# Altium integrated library Altera MAX 7000B.IntLib: 128 symbols (part 7 of 9)
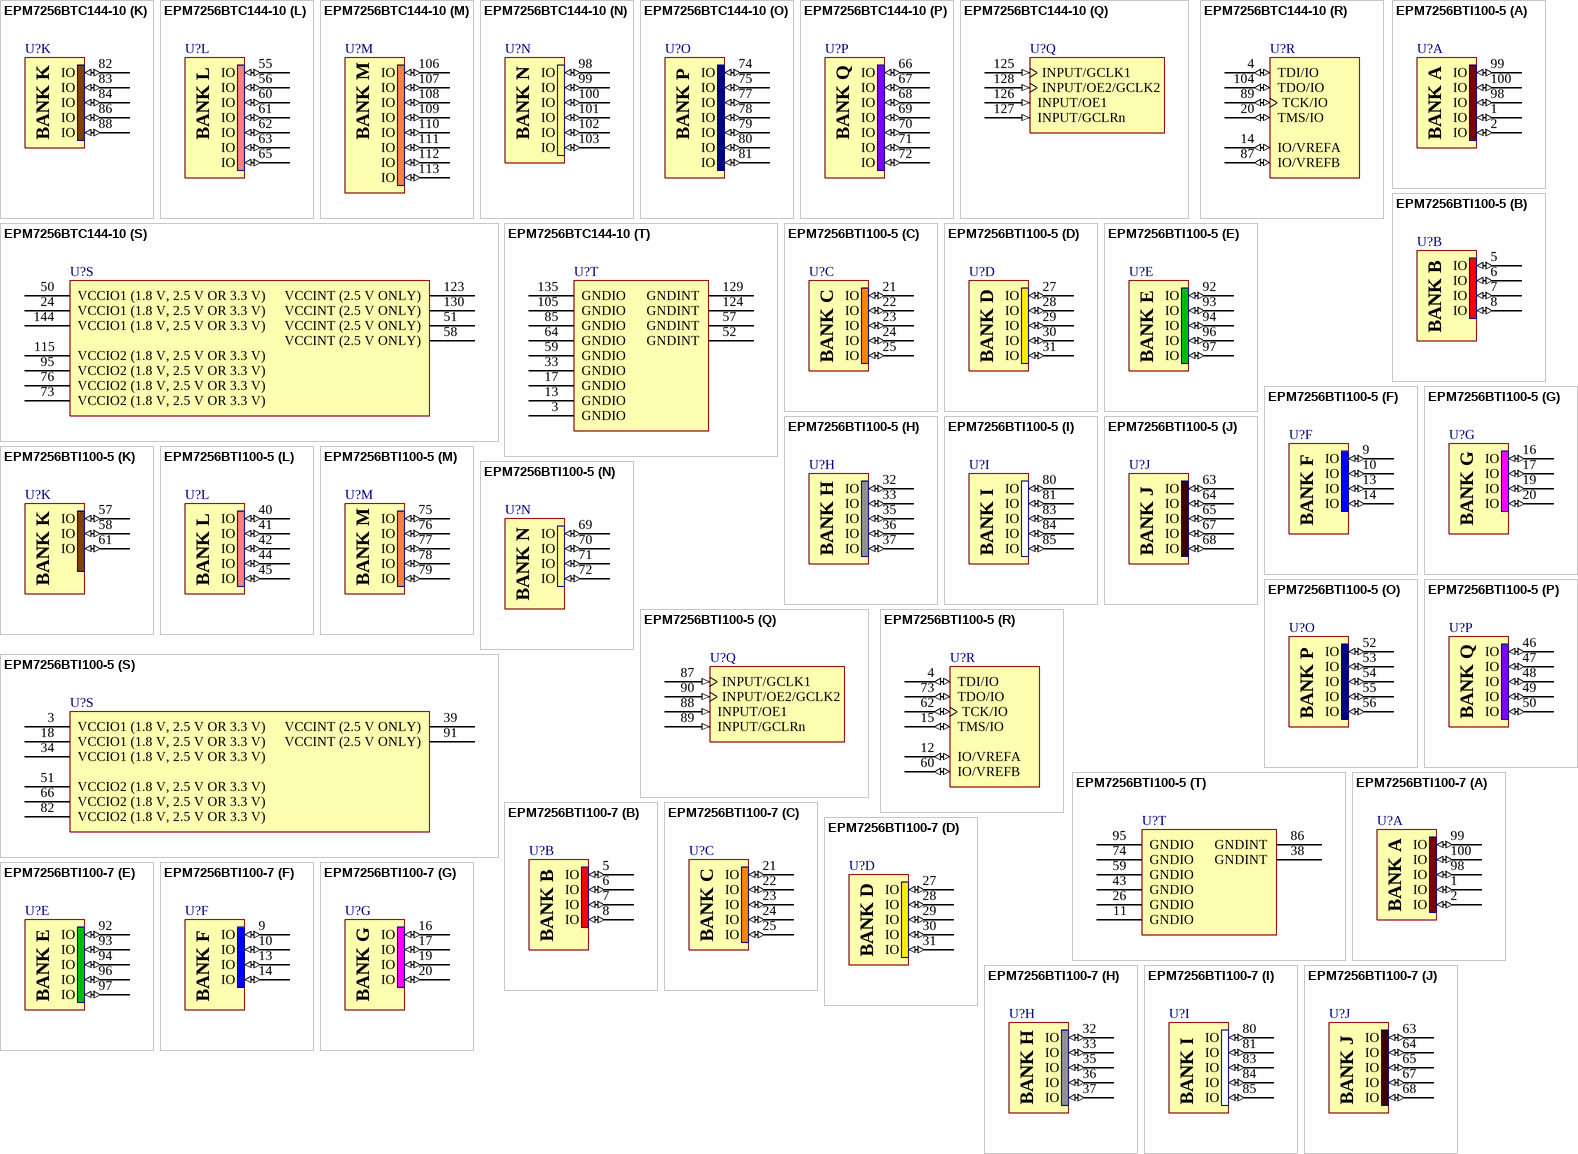
[diagram p53: symbols EPM7256BTC144-10 to EPM7256BTI100-7]

## EPM7256BTC144-10
designator U?
Max 7000B 2.5V CPLD, 256 Macrocells, 144-Pin TQFP, Speed Grade 10, Commercial Grade; Published: 23-Sep-2002; LatestRevisionDate: 13-Apr-2006; LatestRevisionNote: IPC-7351 Footprint Added.; DatasheetVersion: ver3.5, Sep-2005; PackageVersion: ver15.4, Dec-2008; PackageReference: TQFP144; Publisher: Altium Limited; PackageDescription: 144-Pin Plastic Thin Quad Flat Pack (TQFP144) - Wire Bond; Code_JEDEC: MS-026-BFB; ComponentLink1Description: Manufacturer Link; ComponentLink1URL: http://www.altera.com/products/devices/max7k/m7k-index.html; ComponentLink2Description: Datasheet; ComponentLink2URL: http://www.altera.com/literature/ds/m7000b.pdf; ComponentLink3Description: Packaging Specification; ComponentLink3URL: http://www.altera.com/literature/ds/dspkg.pdf
footprint TQFP144_N (Thin QFP, 144-Leads, Body 20x20mm, Pitch 0.5mm, IPC Medium Density)
footprint TQFP144_L (Thin QFP, 144-Leads, Body 20x20mm, Pitch 0.5mm, IPC High Density)
footprint TQFP144_M (Thin QFP, 144-Leads, Body 20x20mm, Pitch 0.5mm, IPC Low Density)
3D model EPM7256B-TQFP144 (144-Pin Plastic Thin Quad Flat Pack (TQFP144) - Wire Bond)
signal-integrity model 7kb (MAX 7000B)
part A pins: 1 IO (io), 2 IO (io), 139 IO (io), 140 IO (io), 141 IO (io), 142 IO (io), 143 IO (io)
part B pins: 5 IO (io), 6 IO (io), 7 IO (io), 8 IO (io), 9 IO (io), 10 IO (io)
part C pins: 28 IO (io), 29 IO (io), 30 IO (io), 31 IO (io), 32 IO (io), 34 IO (io), 35 IO (io), 36 IO (io)
part D pins: 37 IO (io), 38 IO (io), 39 IO (io), 40 IO (io), 41 IO (io), 42 IO (io), 43 IO (io), 44 IO (io)
part E pins: 131 IO (io), 132 IO (io), 133 IO (io), 134 IO (io), 136 IO (io), 137 IO (io), 138 IO (io)
part F pins: 11 IO (io), 12 IO (io), 15 IO (io), 16 IO (io), 18 IO (io), 19 IO (io)
part G pins: 21 IO (io), 22 IO (io), 23 IO (io), 25 IO (io), 26 IO (io), 27 IO (io)
part H pins: 45 IO (io), 46 IO (io), 47 IO (io), 48 IO (io), 49 IO (io), 53 IO (io), 54 IO (io)
part I pins: 114 IO (io), 116 IO (io), 117 IO (io), 118 IO (io), 119 IO (io), 120 IO (io), 121 IO (io), 122 IO (io)
part J pins: 90 IO (io), 91 IO (io), 92 IO (io), 93 IO (io), 94 IO (io), 96 IO (io), 97 IO (io)
part K pins: 82 IO (io), 83 IO (io), 84 IO (io), 86 IO (io), 88 IO (io)
part L pins: 55 IO (io), 56 IO (io), 60 IO (io), 61 IO (io), 62 IO (io), 63 IO (io), 65 IO (io)
part M pins: 106 IO (io), 107 IO (io), 108 IO (io), 109 IO (io), 110 IO (io), 111 IO (io), 112 IO (io), 113 IO (io)
part N pins: 98 IO (io), 99 IO (io), 100 IO (io), 101 IO (io), 102 IO (io), 103 IO (io)
part O pins: 74 IO (io), 75 IO (io), 77 IO (io), 78 IO (io), 79 IO (io), 80 IO (io), 81 IO (io)
part P pins: 66 IO (io), 67 IO (io), 68 IO (io), 69 IO (io), 70 IO (io), 71 IO (io), 72 IO (io)
part Q pins: 125 INPUT/GCLK1 (in), 126 INPUT/OE1 (in), 127 INPUT/GCLRn (in), 128 INPUT/OE2/GCLK2 (in)
part R pins: 4 TDI/IO (io), 14 IO/VREFA (io), 20 TMS/IO (io), 87 IO/VREFB (io), 89 TCK/IO (io), 104 TDO/IO (io)
part S pins: 24 VCCIO1 (1.8 V, 2.5 V OR 3.3 V) (power), 50 VCCIO1 (1.8 V, 2.5 V OR 3.3 V) (power), 51 VCCINT (2.5 V ONLY) (power), 58 VCCINT (2.5 V ONLY) (power), 73 VCCIO2 (1.8 V, 2.5 V OR 3.3 V) (power), 76 VCCIO2 (1.8 V, 2.5 V OR 3.3 V) (power), 95 VCCIO2 (1.8 V, 2.5 V OR 3.3 V) (power), 115 VCCIO2 (1.8 V, 2.5 V OR 3.3 V) (power), 123 VCCINT (2.5 V ONLY) (power), 130 VCCINT (2.5 V ONLY) (power), 144 VCCIO1 (1.8 V, 2.5 V OR 3.3 V) (power)
part T pins: 3 GNDIO (power), 13 GNDIO (power), 17 GNDIO (power), 33 GNDIO (power), 52 GNDINT (power), 57 GNDINT (power), 59 GNDIO (power), 64 GNDIO (power), 85 GNDIO (power), 105 GNDIO (power), 124 GNDINT (power), 129 GNDINT (power), 135 GNDIO (power)
part A text: BANK A
part B text: BANK B
part C text: BANK C
part D text: BANK D
part E text: BANK E
part F text: BANK F
part G text: BANK G
part H text: BANK H
part I text: BANK I
part J text: BANK J
part K text: BANK K
part L text: BANK L
part M text: BANK M
part N text: BANK N
part O text: BANK P
part P text: BANK Q

## EPM7256BTI100-5
designator U?
Max 7000B 2.5V CPLD, 256 Macrocells, 100-Pin TQFP, Speed Grade 5, Industrial Grade; Published: 17-Sep-2003; LatestRevisionDate: 13-Apr-2006; LatestRevisionNote: IPC-7351 Footprint Added.; DatasheetVersion: ver3.5, Sep-2005; PackageVersion: ver15.1, May-2008; PackageReference: TQFP100; Publisher: Altium Limited; PackageDescription: 100-Pin Plastic Thin Quad Flat Pack (TQFP100) - Wire Bond; Code_JEDEC: MS-026-AED; ComponentLink1Description: Manufacturer Link; ComponentLink1URL: http://www.altera.com/products/devices/max7k/m7k-index.html; ComponentLink2Description: Datasheet; ComponentLink2URL: http://www.altera.com/literature/ds/m7000b.pdf; ComponentLink3Description: Packaging Specification; ComponentLink3URL: http://www.altera.com/literature/ds/dspkg.pdf
footprint TQFP100_N (Thin QFP, 100-Leads, Body 14x14mm, Pitch 0.5mm, IPC Medium Density)
footprint TQFP100_L (Thin QFP, 100-Leads, Body 14x14mm, Pitch 0.5mm, IPC High Density)
footprint TQFP100_M (Thin QFP, 100-Leads, Body 14x14mm, Pitch 0.5mm, IPC Low Density)
3D model EPM7256B-TQFP100 (100-Pin Plastic Thin Quad Flat Pack (TQFP100) - Wire Bond)
signal-integrity model 7kb (MAX 7000B)
part A pins: 1 IO (io), 2 IO (io), 98 IO (io), 99 IO (io), 100 IO (io)
part B pins: 5 IO (io), 6 IO (io), 7 IO (io), 8 IO (io)
part C pins: 21 IO (io), 22 IO (io), 23 IO (io), 24 IO (io), 25 IO (io)
part D pins: 27 IO (io), 28 IO (io), 29 IO (io), 30 IO (io), 31 IO (io)
part E pins: 92 IO (io), 93 IO (io), 94 IO (io), 96 IO (io), 97 IO (io)
part F pins: 9 IO (io), 10 IO (io), 13 IO (io), 14 IO (io)
part G pins: 16 IO (io), 17 IO (io), 19 IO (io), 20 IO (io)
part H pins: 32 IO (io), 33 IO (io), 35 IO (io), 36 IO (io), 37 IO (io)
part I pins: 80 IO (io), 81 IO (io), 83 IO (io), 84 IO (io), 85 IO (io)
part J pins: 63 IO (io), 64 IO (io), 65 IO (io), 67 IO (io), 68 IO (io)
part K pins: 57 IO (io), 58 IO (io), 61 IO (io)
part L pins: 40 IO (io), 41 IO (io), 42 IO (io), 44 IO (io), 45 IO (io)
part M pins: 75 IO (io), 76 IO (io), 77 IO (io), 78 IO (io), 79 IO (io)
part N pins: 69 IO (io), 70 IO (io), 71 IO (io), 72 IO (io)
part O pins: 52 IO (io), 53 IO (io), 54 IO (io), 55 IO (io), 56 IO (io)
part P pins: 46 IO (io), 47 IO (io), 48 IO (io), 49 IO (io), 50 IO (io)
part Q pins: 87 INPUT/GCLK1 (in), 88 INPUT/OE1 (in), 89 INPUT/GCLRn (in), 90 INPUT/OE2/GCLK2 (in)
part R pins: 4 TDI/IO (io), 12 IO/VREFA (io), 15 TMS/IO (io), 60 IO/VREFB (io), 62 TCK/IO (io), 73 TDO/IO (io)
part S pins: 3 VCCIO1 (1.8 V, 2.5 V OR 3.3 V) (power), 18 VCCIO1 (1.8 V, 2.5 V OR 3.3 V) (power), 34 VCCIO1 (1.8 V, 2.5 V OR 3.3 V) (power), 39 VCCINT (2.5 V ONLY) (power), 51 VCCIO2 (1.8 V, 2.5 V OR 3.3 V) (power), 66 VCCIO2 (1.8 V, 2.5 V OR 3.3 V) (power), 82 VCCIO2 (1.8 V, 2.5 V OR 3.3 V) (power), 91 VCCINT (2.5 V ONLY) (power)
part T pins: 11 GNDIO (power), 26 GNDIO (power), 38 GNDINT (power), 43 GNDIO (power), 59 GNDIO (power), 74 GNDIO (power), 86 GNDINT (power), 95 GNDIO (power)
part A text: BANK A
part B text: BANK B
part C text: BANK C
part D text: BANK D
part E text: BANK E
part F text: BANK F
part G text: BANK G
part H text: BANK H
part I text: BANK I
part J text: BANK J
part K text: BANK K
part L text: BANK L
part M text: BANK M
part N text: BANK N
part O text: BANK P
part P text: BANK Q

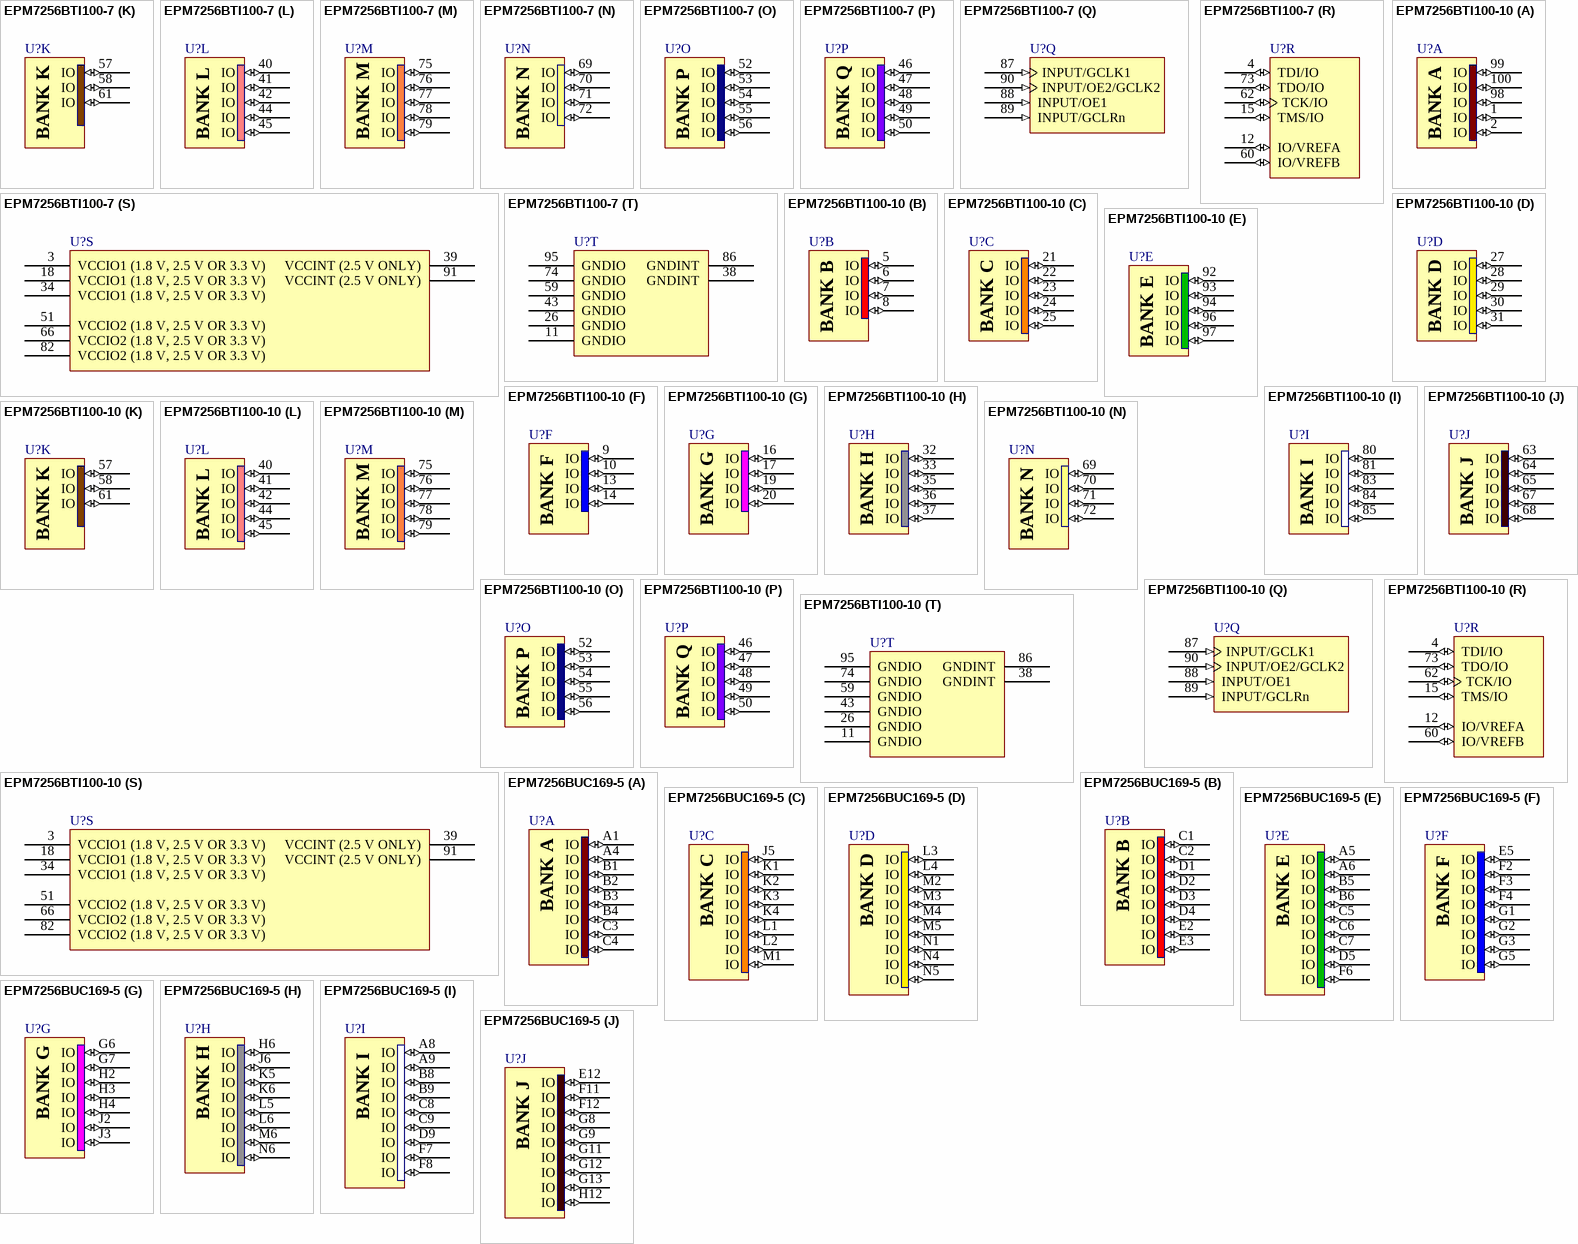
[diagram p34: symbols EPM7256BTI100-7 to EPM7256BUC169-5]

## EPM7256BTI100-7
designator U?
Max 7000B 2.5V CPLD, 256 Macrocells, 100-Pin TQFP, Speed Grade 7, Industrial Grade; Published: 17-Sep-2003; LatestRevisionDate: 13-Apr-2006; LatestRevisionNote: IPC-7351 Footprint Added.; DatasheetVersion: ver3.5, Sep-2005; PackageVersion: ver15.1, May-2008; PackageReference: TQFP100; Publisher: Altium Limited; PackageDescription: 100-Pin Plastic Thin Quad Flat Pack (TQFP100) - Wire Bond; Code_JEDEC: MS-026-AED; ComponentLink1Description: Manufacturer Link; ComponentLink1URL: http://www.altera.com/products/devices/max7k/m7k-index.html; ComponentLink2Description: Datasheet; ComponentLink2URL: http://www.altera.com/literature/ds/m7000b.pdf; ComponentLink3Description: Packaging Specification; ComponentLink3URL: http://www.altera.com/literature/ds/dspkg.pdf
footprint TQFP100_N (Thin QFP, 100-Leads, Body 14x14mm, Pitch 0.5mm, IPC Medium Density)
footprint TQFP100_L (Thin QFP, 100-Leads, Body 14x14mm, Pitch 0.5mm, IPC High Density)
footprint TQFP100_M (Thin QFP, 100-Leads, Body 14x14mm, Pitch 0.5mm, IPC Low Density)
3D model EPM7256B-TQFP100 (100-Pin Plastic Thin Quad Flat Pack (TQFP100) - Wire Bond)
signal-integrity model 7kb (MAX 7000B)
part A pins: 1 IO (io), 2 IO (io), 98 IO (io), 99 IO (io), 100 IO (io)
part B pins: 5 IO (io), 6 IO (io), 7 IO (io), 8 IO (io)
part C pins: 21 IO (io), 22 IO (io), 23 IO (io), 24 IO (io), 25 IO (io)
part D pins: 27 IO (io), 28 IO (io), 29 IO (io), 30 IO (io), 31 IO (io)
part E pins: 92 IO (io), 93 IO (io), 94 IO (io), 96 IO (io), 97 IO (io)
part F pins: 9 IO (io), 10 IO (io), 13 IO (io), 14 IO (io)
part G pins: 16 IO (io), 17 IO (io), 19 IO (io), 20 IO (io)
part H pins: 32 IO (io), 33 IO (io), 35 IO (io), 36 IO (io), 37 IO (io)
part I pins: 80 IO (io), 81 IO (io), 83 IO (io), 84 IO (io), 85 IO (io)
part J pins: 63 IO (io), 64 IO (io), 65 IO (io), 67 IO (io), 68 IO (io)
part K pins: 57 IO (io), 58 IO (io), 61 IO (io)
part L pins: 40 IO (io), 41 IO (io), 42 IO (io), 44 IO (io), 45 IO (io)
part M pins: 75 IO (io), 76 IO (io), 77 IO (io), 78 IO (io), 79 IO (io)
part N pins: 69 IO (io), 70 IO (io), 71 IO (io), 72 IO (io)
part O pins: 52 IO (io), 53 IO (io), 54 IO (io), 55 IO (io), 56 IO (io)
part P pins: 46 IO (io), 47 IO (io), 48 IO (io), 49 IO (io), 50 IO (io)
part Q pins: 87 INPUT/GCLK1 (in), 88 INPUT/OE1 (in), 89 INPUT/GCLRn (in), 90 INPUT/OE2/GCLK2 (in)
part R pins: 4 TDI/IO (io), 12 IO/VREFA (io), 15 TMS/IO (io), 60 IO/VREFB (io), 62 TCK/IO (io), 73 TDO/IO (io)
part S pins: 3 VCCIO1 (1.8 V, 2.5 V OR 3.3 V) (power), 18 VCCIO1 (1.8 V, 2.5 V OR 3.3 V) (power), 34 VCCIO1 (1.8 V, 2.5 V OR 3.3 V) (power), 39 VCCINT (2.5 V ONLY) (power), 51 VCCIO2 (1.8 V, 2.5 V OR 3.3 V) (power), 66 VCCIO2 (1.8 V, 2.5 V OR 3.3 V) (power), 82 VCCIO2 (1.8 V, 2.5 V OR 3.3 V) (power), 91 VCCINT (2.5 V ONLY) (power)
part T pins: 11 GNDIO (power), 26 GNDIO (power), 38 GNDINT (power), 43 GNDIO (power), 59 GNDIO (power), 74 GNDIO (power), 86 GNDINT (power), 95 GNDIO (power)
part A text: BANK A
part B text: BANK B
part C text: BANK C
part D text: BANK D
part E text: BANK E
part F text: BANK F
part G text: BANK G
part H text: BANK H
part I text: BANK I
part J text: BANK J
part K text: BANK K
part L text: BANK L
part M text: BANK M
part N text: BANK N
part O text: BANK P
part P text: BANK Q

## EPM7256BTI100-10
designator U?
Max 7000B 2.5V CPLD, 256 Macrocells, 100-Pin TQFP, Speed Grade 10, Industrial Grade; Published: 17-Sep-2003; LatestRevisionDate: 13-Apr-2006; LatestRevisionNote: IPC-7351 Footprint Added.; DatasheetVersion: ver3.5, Sep-2005; PackageVersion: ver15.1, May-2008; PackageReference: TQFP100; Publisher: Altium Limited; PackageDescription: 100-Pin Plastic Thin Quad Flat Pack (TQFP100) - Wire Bond; Code_JEDEC: MS-026-AED; ComponentLink1Description: Manufacturer Link; ComponentLink1URL: http://www.altera.com/products/devices/max7k/m7k-index.html; ComponentLink2Description: Datasheet; ComponentLink2URL: http://www.altera.com/literature/ds/m7000b.pdf; ComponentLink3Description: Packaging Specification; ComponentLink3URL: http://www.altera.com/literature/ds/dspkg.pdf
footprint TQFP100_N (Thin QFP, 100-Leads, Body 14x14mm, Pitch 0.5mm, IPC Medium Density)
footprint TQFP100_L (Thin QFP, 100-Leads, Body 14x14mm, Pitch 0.5mm, IPC High Density)
footprint TQFP100_M (Thin QFP, 100-Leads, Body 14x14mm, Pitch 0.5mm, IPC Low Density)
3D model EPM7256B-TQFP100 (100-Pin Plastic Thin Quad Flat Pack (TQFP100) - Wire Bond)
signal-integrity model 7kb (MAX 7000B)
part A pins: 1 IO (io), 2 IO (io), 98 IO (io), 99 IO (io), 100 IO (io)
part B pins: 5 IO (io), 6 IO (io), 7 IO (io), 8 IO (io)
part C pins: 21 IO (io), 22 IO (io), 23 IO (io), 24 IO (io), 25 IO (io)
part D pins: 27 IO (io), 28 IO (io), 29 IO (io), 30 IO (io), 31 IO (io)
part E pins: 92 IO (io), 93 IO (io), 94 IO (io), 96 IO (io), 97 IO (io)
part F pins: 9 IO (io), 10 IO (io), 13 IO (io), 14 IO (io)
part G pins: 16 IO (io), 17 IO (io), 19 IO (io), 20 IO (io)
part H pins: 32 IO (io), 33 IO (io), 35 IO (io), 36 IO (io), 37 IO (io)
part I pins: 80 IO (io), 81 IO (io), 83 IO (io), 84 IO (io), 85 IO (io)
part J pins: 63 IO (io), 64 IO (io), 65 IO (io), 67 IO (io), 68 IO (io)
part K pins: 57 IO (io), 58 IO (io), 61 IO (io)
part L pins: 40 IO (io), 41 IO (io), 42 IO (io), 44 IO (io), 45 IO (io)
part M pins: 75 IO (io), 76 IO (io), 77 IO (io), 78 IO (io), 79 IO (io)
part N pins: 69 IO (io), 70 IO (io), 71 IO (io), 72 IO (io)
part O pins: 52 IO (io), 53 IO (io), 54 IO (io), 55 IO (io), 56 IO (io)
part P pins: 46 IO (io), 47 IO (io), 48 IO (io), 49 IO (io), 50 IO (io)
part Q pins: 87 INPUT/GCLK1 (in), 88 INPUT/OE1 (in), 89 INPUT/GCLRn (in), 90 INPUT/OE2/GCLK2 (in)
part R pins: 4 TDI/IO (io), 12 IO/VREFA (io), 15 TMS/IO (io), 60 IO/VREFB (io), 62 TCK/IO (io), 73 TDO/IO (io)
part S pins: 3 VCCIO1 (1.8 V, 2.5 V OR 3.3 V) (power), 18 VCCIO1 (1.8 V, 2.5 V OR 3.3 V) (power), 34 VCCIO1 (1.8 V, 2.5 V OR 3.3 V) (power), 39 VCCINT (2.5 V ONLY) (power), 51 VCCIO2 (1.8 V, 2.5 V OR 3.3 V) (power), 66 VCCIO2 (1.8 V, 2.5 V OR 3.3 V) (power), 82 VCCIO2 (1.8 V, 2.5 V OR 3.3 V) (power), 91 VCCINT (2.5 V ONLY) (power)
part T pins: 11 GNDIO (power), 26 GNDIO (power), 38 GNDINT (power), 43 GNDIO (power), 59 GNDIO (power), 74 GNDIO (power), 86 GNDINT (power), 95 GNDIO (power)
part A text: BANK A
part B text: BANK B
part C text: BANK C
part D text: BANK D
part E text: BANK E
part F text: BANK F
part G text: BANK G
part H text: BANK H
part I text: BANK I
part J text: BANK J
part K text: BANK K
part L text: BANK L
part M text: BANK M
part N text: BANK N
part O text: BANK P
part P text: BANK Q

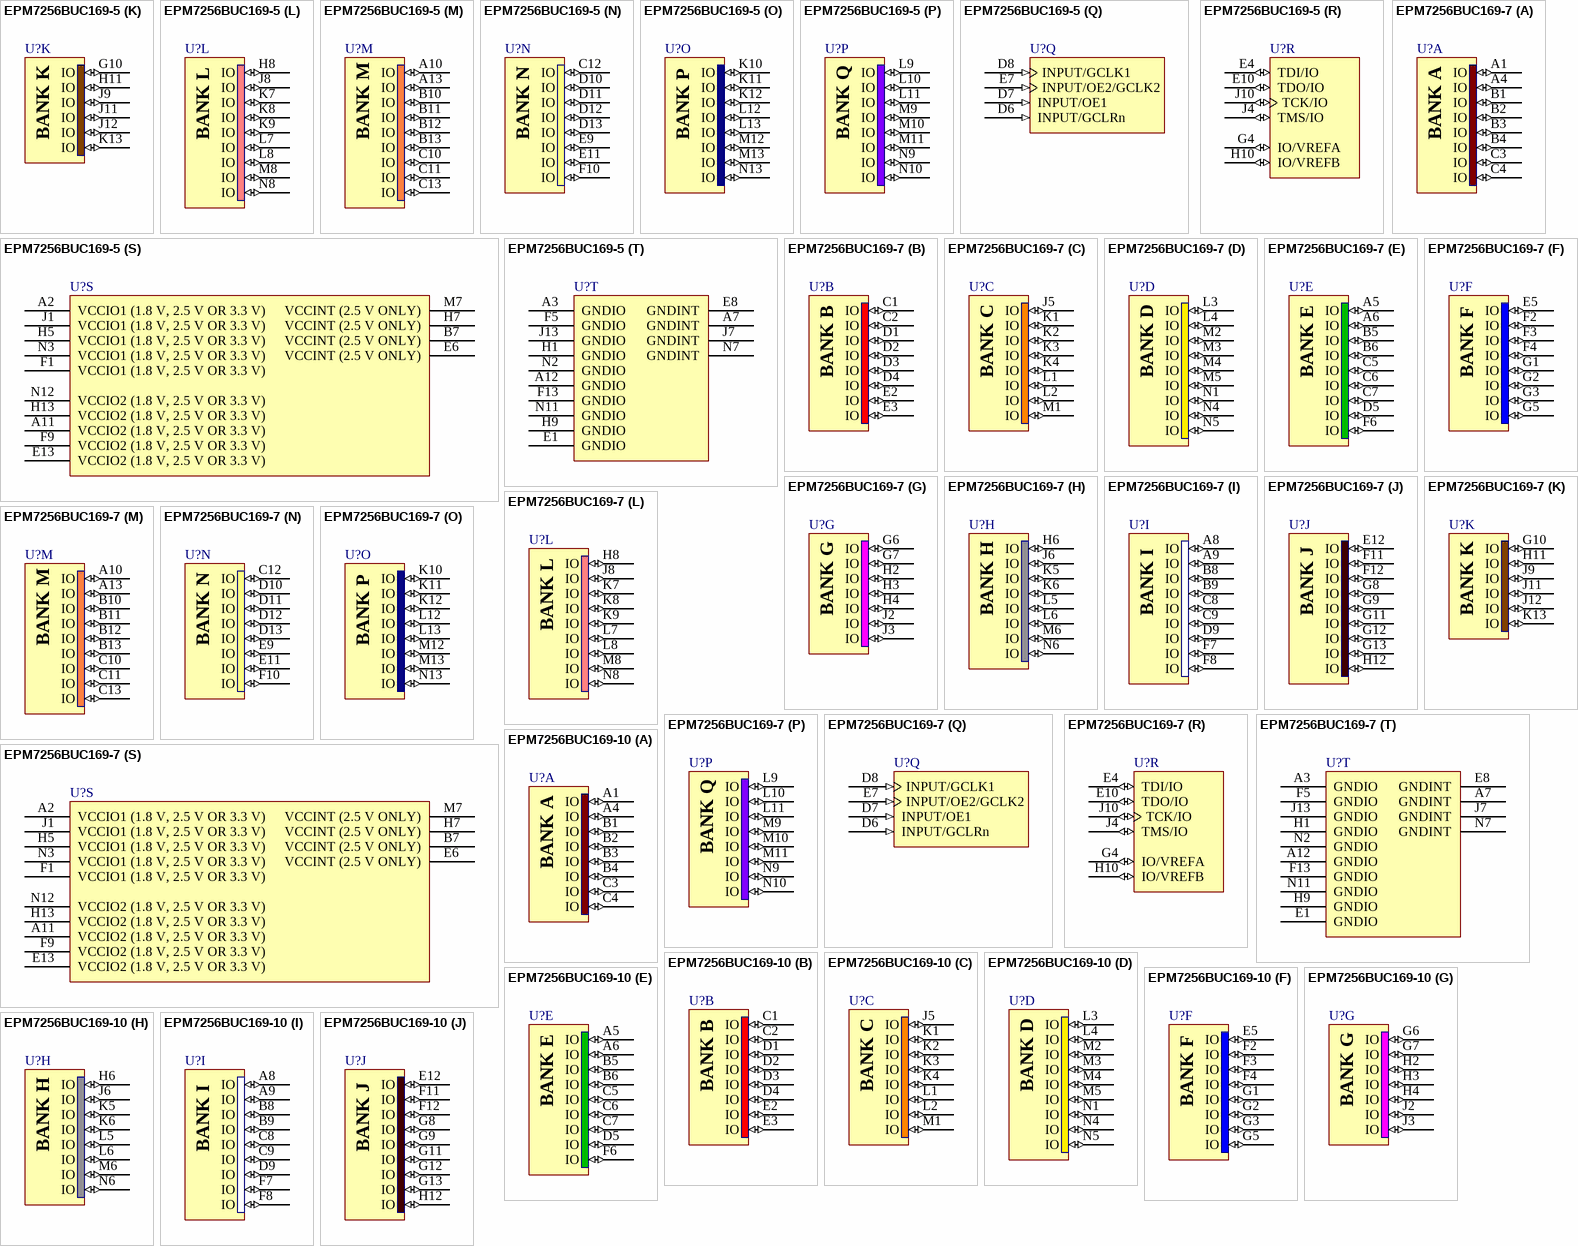
[diagram p35: symbols EPM7256BUC169-5 to EPM7256BUC169-10]

## EPM7256BUC169-5
designator U?
Max 7000B 2.5V CPLD, 256 Macrocells, 169-Pin UFBGA, Speed Grade 5, Commercial Grade; Published: 17-Sep-2003; LatestRevisionDate: 13-Apr-2006; LatestRevisionNote: IPC-7351 Footprint Added.; DatasheetVersion: ver3.5, Sep-2005; PackageVersion: ver15.4, Dec-2008; PackageReference: UBGA169; Publisher: Altium Limited; PackageDescription: 169-Ball Ultra FineLine Ball Grid Array (UBGA169) - Wire Bond; Code_JEDEC: MO-216-BAF-1; ComponentLink1Description: Manufacturer Link; ComponentLink1URL: http://www.altera.com/products/devices/max7k/m7k-index.html; ComponentLink2Description: Datasheet; ComponentLink2URL: http://www.altera.com/literature/ds/m7000b.pdf; ComponentLink3Description: Packaging Specification; ComponentLink3URL: http://www.altera.com/literature/ds/dspkg.pdf
footprint UBGA169 (BGA, 169-Leads, Body 11x11mm, Pitch 0.8mm)
3D model EPM7256B-UBGA169 (169-Ball Ultra FineLine Ball Grid Array (UBGA169) - Wire Bond)
signal-integrity model 7kb (MAX 7000B)
part A pins: A1 IO (io), A4 IO (io), B1 IO (io), B2 IO (io), B3 IO (io), B4 IO (io), C3 IO (io), C4 IO (io)
part B pins: C1 IO (io), C2 IO (io), D1 IO (io), D2 IO (io), D3 IO (io), D4 IO (io), E2 IO (io), E3 IO (io)
part C pins: J5 IO (io), K1 IO (io), K2 IO (io), K3 IO (io), K4 IO (io), L1 IO (io), L2 IO (io), M1 IO (io)
part D pins: L3 IO (io), L4 IO (io), M2 IO (io), M3 IO (io), M4 IO (io), M5 IO (io), N1 IO (io), N4 IO (io), N5 IO (io)
part E pins: A5 IO (io), A6 IO (io), B5 IO (io), B6 IO (io), C5 IO (io), C6 IO (io), C7 IO (io), D5 IO (io), F6 IO (io)
part F pins: E5 IO (io), F2 IO (io), F3 IO (io), F4 IO (io), G1 IO (io), G2 IO (io), G3 IO (io), G5 IO (io)
part G pins: G6 IO (io), G7 IO (io), H2 IO (io), H3 IO (io), H4 IO (io), J2 IO (io), J3 IO (io)
part H pins: H6 IO (io), J6 IO (io), K5 IO (io), K6 IO (io), L5 IO (io), L6 IO (io), M6 IO (io), N6 IO (io)
part I pins: A8 IO (io), A9 IO (io), B8 IO (io), B9 IO (io), C8 IO (io), C9 IO (io), D9 IO (io), F7 IO (io), F8 IO (io)
part J pins: E12 IO (io), F11 IO (io), F12 IO (io), G8 IO (io), G9 IO (io), G11 IO (io), G12 IO (io), G13 IO (io), H12 IO (io)
part K pins: G10 IO (io), H11 IO (io), J9 IO (io), J11 IO (io), J12 IO (io), K13 IO (io)
part L pins: H8 IO (io), J8 IO (io), K7 IO (io), K8 IO (io), K9 IO (io), L7 IO (io), L8 IO (io), M8 IO (io), N8 IO (io)
part M pins: A10 IO (io), A13 IO (io), B10 IO (io), B11 IO (io), B12 IO (io), B13 IO (io), C10 IO (io), C11 IO (io), C13 IO (io)
part N pins: C12 IO (io), D10 IO (io), D11 IO (io), D12 IO (io), D13 IO (io), E9 IO (io), E11 IO (io), F10 IO (io)
part O pins: K10 IO (io), K11 IO (io), K12 IO (io), L12 IO (io), L13 IO (io), M12 IO (io), M13 IO (io), N13 IO (io)
part P pins: L9 IO (io), L10 IO (io), L11 IO (io), M9 IO (io), M10 IO (io), M11 IO (io), N9 IO (io), N10 IO (io)
part Q pins: D6 INPUT/GCLRn (in), D7 INPUT/OE1 (in), D8 INPUT/GCLK1 (in), E7 INPUT/OE2/GCLK2 (in)
part R pins: E4 TDI/IO (io), E10 TDO/IO (io), G4 IO/VREFA (io), H10 IO/VREFB (io), J4 TMS/IO (io), J10 TCK/IO (io)
part S pins: A2 VCCIO1 (1.8 V, 2.5 V OR 3.3 V) (power), A11 VCCIO2 (1.8 V, 2.5 V OR 3.3 V) (power), B7 VCCINT (2.5 V ONLY) (power), E6 VCCINT (2.5 V ONLY) (power), E13 VCCIO2 (1.8 V, 2.5 V OR 3.3 V) (power), F1 VCCIO1 (1.8 V, 2.5 V OR 3.3 V) (power), F9 VCCIO2 (1.8 V, 2.5 V OR 3.3 V) (power), H5 VCCIO1 (1.8 V, 2.5 V OR 3.3 V) (power), H7 VCCINT (2.5 V ONLY) (power), H13 VCCIO2 (1.8 V, 2.5 V OR 3.3 V) (power), J1 VCCIO1 (1.8 V, 2.5 V OR 3.3 V) (power), M7 VCCINT (2.5 V ONLY) (power), N3 VCCIO1 (1.8 V, 2.5 V OR 3.3 V) (power), N12 VCCIO2 (1.8 V, 2.5 V OR 3.3 V) (power)
part T pins: A3 GNDIO (power), A7 GNDINT (power), A12 GNDIO (power), E1 GNDIO (power), E8 GNDINT (power), F5 GNDIO (power), F13 GNDIO (power), H1 GNDIO (power), H9 GNDIO (power), J7 GNDINT (power), J13 GNDIO (power), N2 GNDIO (power), N7 GNDINT (power), N11 GNDIO (power)
part A text: BANK A
part B text: BANK B
part C text: BANK C
part D text: BANK D
part E text: BANK E
part F text: BANK F
part G text: BANK G
part H text: BANK H
part I text: BANK I
part J text: BANK J
part K text: BANK K
part L text: BANK L
part M text: BANK M
part N text: BANK N
part O text: BANK P
part P text: BANK Q

## EPM7256BUC169-7
designator U?
Max 7000B 2.5V CPLD, 256 Macrocells, 169-Pin UFBGA, Speed Grade 7, Commercial Grade; Published: 17-Sep-2003; LatestRevisionDate: 13-Apr-2006; LatestRevisionNote: IPC-7351 Footprint Added.; DatasheetVersion: ver3.5, Sep-2005; PackageVersion: ver15.4, Dec-2008; PackageReference: UBGA169; Publisher: Altium Limited; PackageDescription: 169-Ball Ultra FineLine Ball Grid Array (UBGA169) - Wire Bond; Code_JEDEC: MO-216-BAF-1; ComponentLink1Description: Manufacturer Link; ComponentLink1URL: http://www.altera.com/products/devices/max7k/m7k-index.html; ComponentLink2Description: Datasheet; ComponentLink2URL: http://www.altera.com/literature/ds/m7000b.pdf; ComponentLink3Description: Packaging Specification; ComponentLink3URL: http://www.altera.com/literature/ds/dspkg.pdf
footprint UBGA169 (BGA, 169-Leads, Body 11x11mm, Pitch 0.8mm)
3D model EPM7256B-UBGA169 (169-Ball Ultra FineLine Ball Grid Array (UBGA169) - Wire Bond)
signal-integrity model 7kb (MAX 7000B)
part A pins: A1 IO (io), A4 IO (io), B1 IO (io), B2 IO (io), B3 IO (io), B4 IO (io), C3 IO (io), C4 IO (io)
part B pins: C1 IO (io), C2 IO (io), D1 IO (io), D2 IO (io), D3 IO (io), D4 IO (io), E2 IO (io), E3 IO (io)
part C pins: J5 IO (io), K1 IO (io), K2 IO (io), K3 IO (io), K4 IO (io), L1 IO (io), L2 IO (io), M1 IO (io)
part D pins: L3 IO (io), L4 IO (io), M2 IO (io), M3 IO (io), M4 IO (io), M5 IO (io), N1 IO (io), N4 IO (io), N5 IO (io)
part E pins: A5 IO (io), A6 IO (io), B5 IO (io), B6 IO (io), C5 IO (io), C6 IO (io), C7 IO (io), D5 IO (io), F6 IO (io)
part F pins: E5 IO (io), F2 IO (io), F3 IO (io), F4 IO (io), G1 IO (io), G2 IO (io), G3 IO (io), G5 IO (io)
part G pins: G6 IO (io), G7 IO (io), H2 IO (io), H3 IO (io), H4 IO (io), J2 IO (io), J3 IO (io)
part H pins: H6 IO (io), J6 IO (io), K5 IO (io), K6 IO (io), L5 IO (io), L6 IO (io), M6 IO (io), N6 IO (io)
part I pins: A8 IO (io), A9 IO (io), B8 IO (io), B9 IO (io), C8 IO (io), C9 IO (io), D9 IO (io), F7 IO (io), F8 IO (io)
part J pins: E12 IO (io), F11 IO (io), F12 IO (io), G8 IO (io), G9 IO (io), G11 IO (io), G12 IO (io), G13 IO (io), H12 IO (io)
part K pins: G10 IO (io), H11 IO (io), J9 IO (io), J11 IO (io), J12 IO (io), K13 IO (io)
part L pins: H8 IO (io), J8 IO (io), K7 IO (io), K8 IO (io), K9 IO (io), L7 IO (io), L8 IO (io), M8 IO (io), N8 IO (io)
part M pins: A10 IO (io), A13 IO (io), B10 IO (io), B11 IO (io), B12 IO (io), B13 IO (io), C10 IO (io), C11 IO (io), C13 IO (io)
part N pins: C12 IO (io), D10 IO (io), D11 IO (io), D12 IO (io), D13 IO (io), E9 IO (io), E11 IO (io), F10 IO (io)
part O pins: K10 IO (io), K11 IO (io), K12 IO (io), L12 IO (io), L13 IO (io), M12 IO (io), M13 IO (io), N13 IO (io)
part P pins: L9 IO (io), L10 IO (io), L11 IO (io), M9 IO (io), M10 IO (io), M11 IO (io), N9 IO (io), N10 IO (io)
part Q pins: D6 INPUT/GCLRn (in), D7 INPUT/OE1 (in), D8 INPUT/GCLK1 (in), E7 INPUT/OE2/GCLK2 (in)
part R pins: E4 TDI/IO (io), E10 TDO/IO (io), G4 IO/VREFA (io), H10 IO/VREFB (io), J4 TMS/IO (io), J10 TCK/IO (io)
part S pins: A2 VCCIO1 (1.8 V, 2.5 V OR 3.3 V) (power), A11 VCCIO2 (1.8 V, 2.5 V OR 3.3 V) (power), B7 VCCINT (2.5 V ONLY) (power), E6 VCCINT (2.5 V ONLY) (power), E13 VCCIO2 (1.8 V, 2.5 V OR 3.3 V) (power), F1 VCCIO1 (1.8 V, 2.5 V OR 3.3 V) (power), F9 VCCIO2 (1.8 V, 2.5 V OR 3.3 V) (power), H5 VCCIO1 (1.8 V, 2.5 V OR 3.3 V) (power), H7 VCCINT (2.5 V ONLY) (power), H13 VCCIO2 (1.8 V, 2.5 V OR 3.3 V) (power), J1 VCCIO1 (1.8 V, 2.5 V OR 3.3 V) (power), M7 VCCINT (2.5 V ONLY) (power), N3 VCCIO1 (1.8 V, 2.5 V OR 3.3 V) (power), N12 VCCIO2 (1.8 V, 2.5 V OR 3.3 V) (power)
part T pins: A3 GNDIO (power), A7 GNDINT (power), A12 GNDIO (power), E1 GNDIO (power), E8 GNDINT (power), F5 GNDIO (power), F13 GNDIO (power), H1 GNDIO (power), H9 GNDIO (power), J7 GNDINT (power), J13 GNDIO (power), N2 GNDIO (power), N7 GNDINT (power), N11 GNDIO (power)
part A text: BANK A
part B text: BANK B
part C text: BANK C
part D text: BANK D
part E text: BANK E
part F text: BANK F
part G text: BANK G
part H text: BANK H
part I text: BANK I
part J text: BANK J
part K text: BANK K
part L text: BANK L
part M text: BANK M
part N text: BANK N
part O text: BANK P
part P text: BANK Q

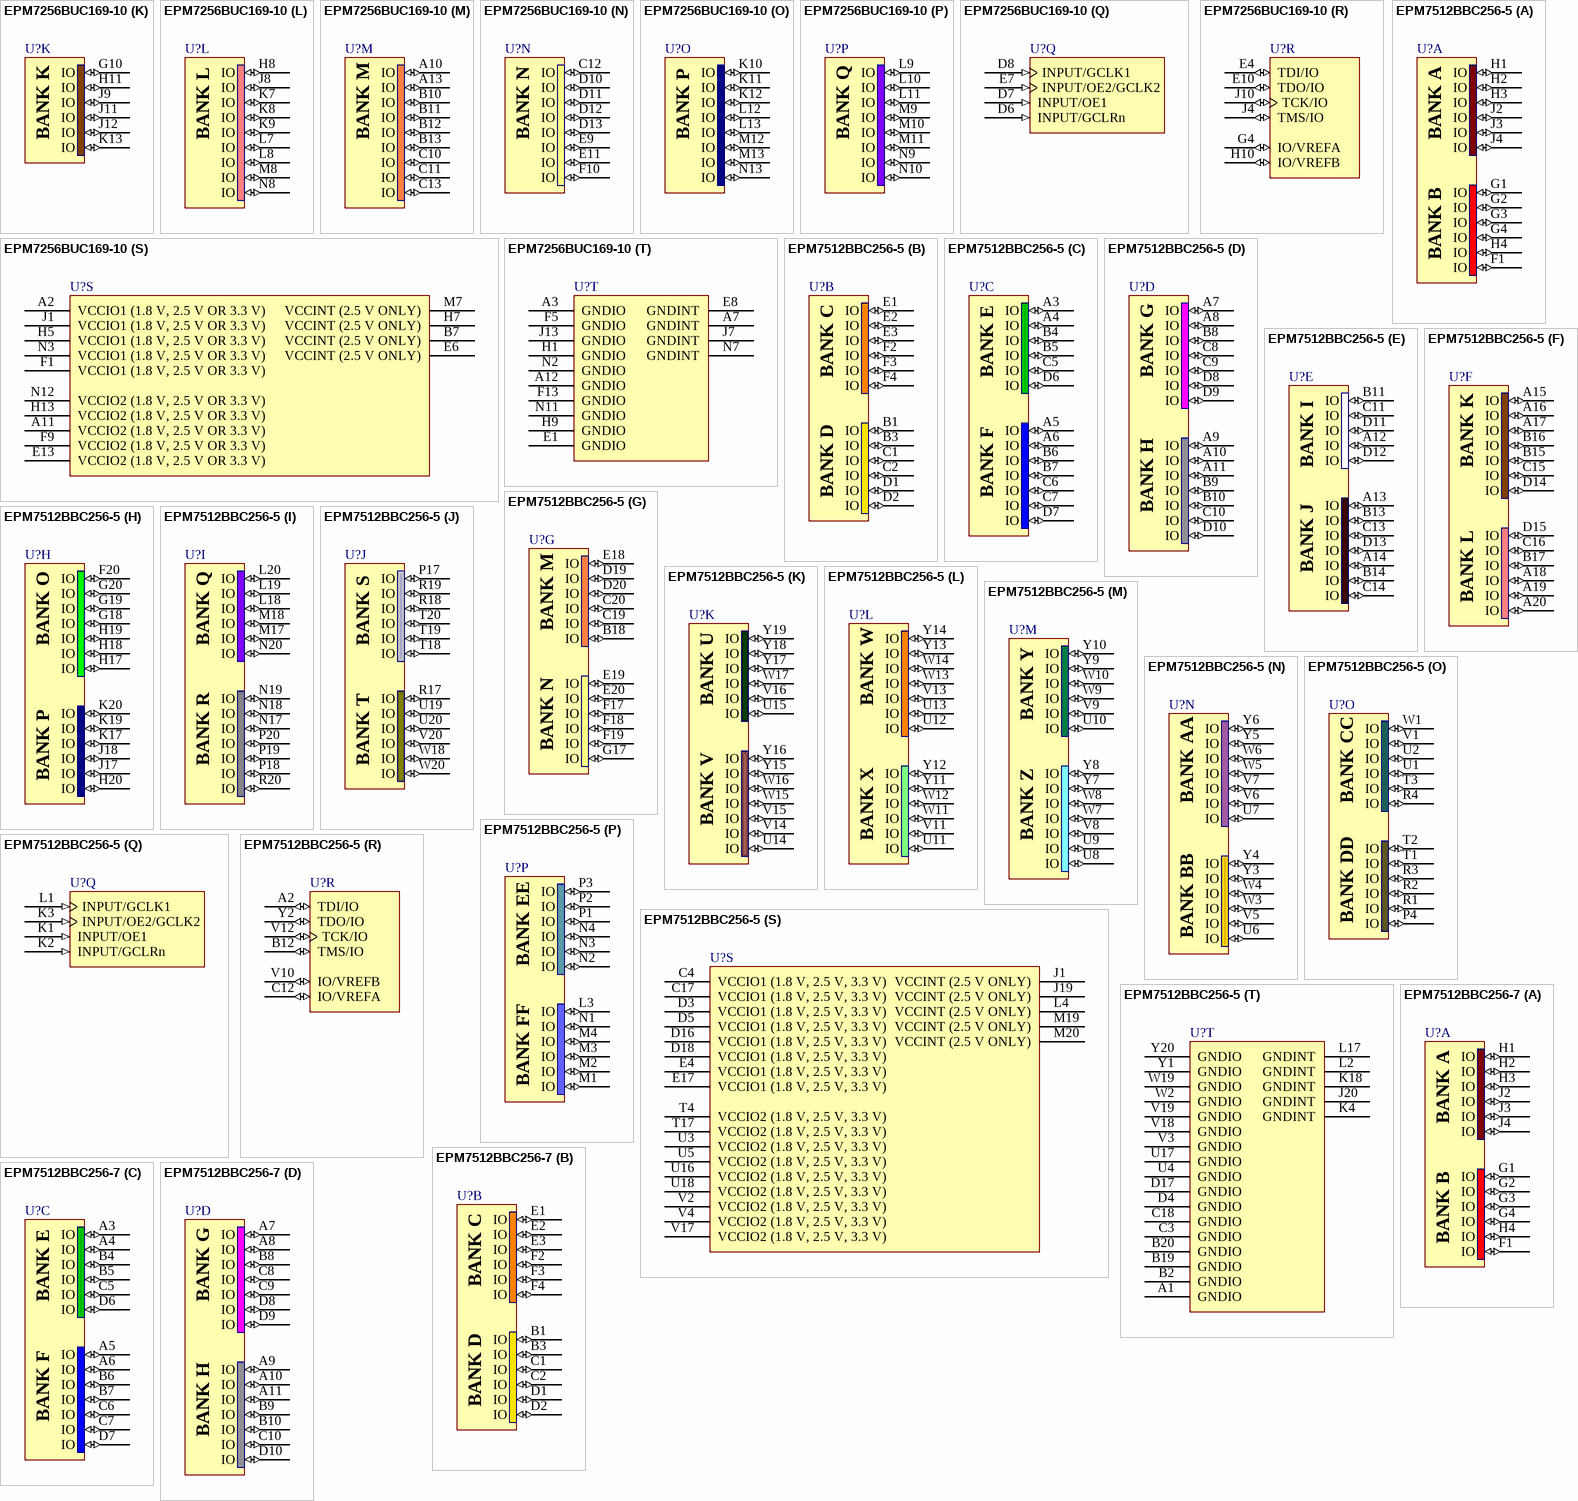
[diagram p36: symbols EPM7256BUC169-10 to EPM7512BBC256-7]

## EPM7256BUC169-10
designator U?
Max 7000B 2.5V CPLD, 256 Macrocells, 169-Pin UFBGA, Speed Grade 10, Commercial Grade; Published: 17-Sep-2003; LatestRevisionDate: 13-Apr-2006; LatestRevisionNote: IPC-7351 Footprint Added.; DatasheetVersion: ver3.5, Sep-2005; PackageVersion: ver15.4, Dec-2008; PackageReference: UBGA169; Publisher: Altium Limited; PackageDescription: 169-Ball Ultra FineLine Ball Grid Array (UBGA169) - Wire Bond; Code_JEDEC: MO-216-BAF-1; ComponentLink1Description: Manufacturer Link; ComponentLink1URL: http://www.altera.com/products/devices/max7k/m7k-index.html; ComponentLink2Description: Datasheet; ComponentLink2URL: http://www.altera.com/literature/ds/m7000b.pdf; ComponentLink3Description: Packaging Specification; ComponentLink3URL: http://www.altera.com/literature/ds/dspkg.pdf
footprint UBGA169 (BGA, 169-Leads, Body 11x11mm, Pitch 0.8mm)
3D model EPM7256B-UBGA169 (169-Ball Ultra FineLine Ball Grid Array (UBGA169) - Wire Bond)
signal-integrity model 7kb (MAX 7000B)
part A pins: A1 IO (io), A4 IO (io), B1 IO (io), B2 IO (io), B3 IO (io), B4 IO (io), C3 IO (io), C4 IO (io)
part B pins: C1 IO (io), C2 IO (io), D1 IO (io), D2 IO (io), D3 IO (io), D4 IO (io), E2 IO (io), E3 IO (io)
part C pins: J5 IO (io), K1 IO (io), K2 IO (io), K3 IO (io), K4 IO (io), L1 IO (io), L2 IO (io), M1 IO (io)
part D pins: L3 IO (io), L4 IO (io), M2 IO (io), M3 IO (io), M4 IO (io), M5 IO (io), N1 IO (io), N4 IO (io), N5 IO (io)
part E pins: A5 IO (io), A6 IO (io), B5 IO (io), B6 IO (io), C5 IO (io), C6 IO (io), C7 IO (io), D5 IO (io), F6 IO (io)
part F pins: E5 IO (io), F2 IO (io), F3 IO (io), F4 IO (io), G1 IO (io), G2 IO (io), G3 IO (io), G5 IO (io)
part G pins: G6 IO (io), G7 IO (io), H2 IO (io), H3 IO (io), H4 IO (io), J2 IO (io), J3 IO (io)
part H pins: H6 IO (io), J6 IO (io), K5 IO (io), K6 IO (io), L5 IO (io), L6 IO (io), M6 IO (io), N6 IO (io)
part I pins: A8 IO (io), A9 IO (io), B8 IO (io), B9 IO (io), C8 IO (io), C9 IO (io), D9 IO (io), F7 IO (io), F8 IO (io)
part J pins: E12 IO (io), F11 IO (io), F12 IO (io), G8 IO (io), G9 IO (io), G11 IO (io), G12 IO (io), G13 IO (io), H12 IO (io)
part K pins: G10 IO (io), H11 IO (io), J9 IO (io), J11 IO (io), J12 IO (io), K13 IO (io)
part L pins: H8 IO (io), J8 IO (io), K7 IO (io), K8 IO (io), K9 IO (io), L7 IO (io), L8 IO (io), M8 IO (io), N8 IO (io)
part M pins: A10 IO (io), A13 IO (io), B10 IO (io), B11 IO (io), B12 IO (io), B13 IO (io), C10 IO (io), C11 IO (io), C13 IO (io)
part N pins: C12 IO (io), D10 IO (io), D11 IO (io), D12 IO (io), D13 IO (io), E9 IO (io), E11 IO (io), F10 IO (io)
part O pins: K10 IO (io), K11 IO (io), K12 IO (io), L12 IO (io), L13 IO (io), M12 IO (io), M13 IO (io), N13 IO (io)
part P pins: L9 IO (io), L10 IO (io), L11 IO (io), M9 IO (io), M10 IO (io), M11 IO (io), N9 IO (io), N10 IO (io)
part Q pins: D6 INPUT/GCLRn (in), D7 INPUT/OE1 (in), D8 INPUT/GCLK1 (in), E7 INPUT/OE2/GCLK2 (in)
part R pins: E4 TDI/IO (io), E10 TDO/IO (io), G4 IO/VREFA (io), H10 IO/VREFB (io), J4 TMS/IO (io), J10 TCK/IO (io)
part S pins: A2 VCCIO1 (1.8 V, 2.5 V OR 3.3 V) (power), A11 VCCIO2 (1.8 V, 2.5 V OR 3.3 V) (power), B7 VCCINT (2.5 V ONLY) (power), E6 VCCINT (2.5 V ONLY) (power), E13 VCCIO2 (1.8 V, 2.5 V OR 3.3 V) (power), F1 VCCIO1 (1.8 V, 2.5 V OR 3.3 V) (power), F9 VCCIO2 (1.8 V, 2.5 V OR 3.3 V) (power), H5 VCCIO1 (1.8 V, 2.5 V OR 3.3 V) (power), H7 VCCINT (2.5 V ONLY) (power), H13 VCCIO2 (1.8 V, 2.5 V OR 3.3 V) (power), J1 VCCIO1 (1.8 V, 2.5 V OR 3.3 V) (power), M7 VCCINT (2.5 V ONLY) (power), N3 VCCIO1 (1.8 V, 2.5 V OR 3.3 V) (power), N12 VCCIO2 (1.8 V, 2.5 V OR 3.3 V) (power)
part T pins: A3 GNDIO (power), A7 GNDINT (power), A12 GNDIO (power), E1 GNDIO (power), E8 GNDINT (power), F5 GNDIO (power), F13 GNDIO (power), H1 GNDIO (power), H9 GNDIO (power), J7 GNDINT (power), J13 GNDIO (power), N2 GNDIO (power), N7 GNDINT (power), N11 GNDIO (power)
part A text: BANK A
part B text: BANK B
part C text: BANK C
part D text: BANK D
part E text: BANK E
part F text: BANK F
part G text: BANK G
part H text: BANK H
part I text: BANK I
part J text: BANK J
part K text: BANK K
part L text: BANK L
part M text: BANK M
part N text: BANK N
part O text: BANK P
part P text: BANK Q

## EPM7512BBC256-5
designator U?
Max 7000B 2.5V CPLD, 512 Macrocells, 256-Pin BGA, Speed Grade 5, Commercial Grade; Published: 17-Sep-2003; LatestRevisionDate: 13-Apr-2006; LatestRevisionNote: IPC-7351 Footprint Added.; DatasheetVersion: ver3.5, Sep-2005; PackageVersion: ver14.3, Jul-2006; PackageReference: BGA256; Publisher: Altium Limited; PackageDescription: 256-Ball Plastic Ball Grid Array (BGA256) - Option 2; Code_JEDEC: MS-034-BAL-2; ComponentLink1Description: Manufacturer Link; ComponentLink1URL: http://www.altera.com/products/devices/max7k/m7k-index.html; ComponentLink2Description: Datasheet; ComponentLink2URL: http://www.altera.com/literature/ds/m7000b.pdf; ComponentLink3Description: Packaging Specification; ComponentLink3URL: http://www.altera.com/literature/ds/dspkg.pdf
footprint BGA256 (BGA, 256-Leads, Body 27x27mm, Pitch 1.27mm)
3D model EPM7512B-BGA256 (256-Ball Plastic Ball Grid Array (BGA256) - Option 2)
signal-integrity model 7kb (MAX 7000B)
part A pins: F1 IO (io), G1 IO (io), G2 IO (io), G3 IO (io), G4 IO (io), H1 IO (io), H2 IO (io), H3 IO (io), H4 IO (io), J2 IO (io), J3 IO (io), J4 IO (io)
part B pins: B1 IO (io), B3 IO (io), C1 IO (io), C2 IO (io), D1 IO (io), D2 IO (io), E1 IO (io), E2 IO (io), E3 IO (io), F2 IO (io), F3 IO (io), F4 IO (io)
part C pins: A3 IO (io), A4 IO (io), A5 IO (io), A6 IO (io), B4 IO (io), B5 IO (io), B6 IO (io), B7 IO (io), C5 IO (io), C6 IO (io), C7 IO (io), D6 IO (io), D7 IO (io)
part D pins: A7 IO (io), A8 IO (io), A9 IO (io), A10 IO (io), A11 IO (io), B8 IO (io), B9 IO (io), B10 IO (io), C8 IO (io), C9 IO (io), C10 IO (io), D8 IO (io), D9 IO (io), D10 IO (io)
part E pins: A12 IO (io), A13 IO (io), A14 IO (io), B11 IO (io), B13 IO (io), B14 IO (io), C11 IO (io), C13 IO (io), C14 IO (io), D11 IO (io), D12 IO (io), D13 IO (io)
part F pins: A15 IO (io), A16 IO (io), A17 IO (io), A18 IO (io), A19 IO (io), A20 IO (io), B15 IO (io), B16 IO (io), B17 IO (io), C15 IO (io), C16 IO (io), D14 IO (io), D15 IO (io)
part G pins: B18 IO (io), C19 IO (io), C20 IO (io), D19 IO (io), D20 IO (io), E18 IO (io), E19 IO (io), E20 IO (io), F17 IO (io), F18 IO (io), F19 IO (io), G17 IO (io)
part H pins: F20 IO (io), G18 IO (io), G19 IO (io), G20 IO (io), H17 IO (io), H18 IO (io), H19 IO (io), H20 IO (io), J17 IO (io), J18 IO (io), K17 IO (io), K19 IO (io), K20 IO (io)
part I pins: L18 IO (io), L19 IO (io), L20 IO (io), M17 IO (io), M18 IO (io), N17 IO (io), N18 IO (io), N19 IO (io), N20 IO (io), P18 IO (io), P19 IO (io), P20 IO (io), R20 IO (io)
part J pins: P17 IO (io), R17 IO (io), R18 IO (io), R19 IO (io), T18 IO (io), T19 IO (io), T20 IO (io), U19 IO (io), U20 IO (io), V20 IO (io), W18 IO (io), W20 IO (io)
part K pins: U14 IO (io), U15 IO (io), V14 IO (io), V15 IO (io), V16 IO (io), W15 IO (io), W16 IO (io), W17 IO (io), Y15 IO (io), Y16 IO (io), Y17 IO (io), Y18 IO (io), Y19 IO (io)
part L pins: U11 IO (io), U12 IO (io), U13 IO (io), V11 IO (io), V13 IO (io), W11 IO (io), W12 IO (io), W13 IO (io), W14 IO (io), Y11 IO (io), Y12 IO (io), Y13 IO (io), Y14 IO (io)
part M pins: U8 IO (io), U9 IO (io), U10 IO (io), V8 IO (io), V9 IO (io), W7 IO (io), W8 IO (io), W9 IO (io), W10 IO (io), Y7 IO (io), Y8 IO (io), Y9 IO (io), Y10 IO (io)
part N pins: U6 IO (io), U7 IO (io), V5 IO (io), V6 IO (io), V7 IO (io), W3 IO (io), W4 IO (io), W5 IO (io), W6 IO (io), Y3 IO (io), Y4 IO (io), Y5 IO (io), Y6 IO (io)
part O pins: P4 IO (io), R1 IO (io), R2 IO (io), R3 IO (io), R4 IO (io), T1 IO (io), T2 IO (io), T3 IO (io), U1 IO (io), U2 IO (io), V1 IO (io), W1 IO (io)
part P pins: L3 IO (io), M1 IO (io), M2 IO (io), M3 IO (io), M4 IO (io), N1 IO (io), N2 IO (io), N3 IO (io), N4 IO (io), P1 IO (io), P2 IO (io), P3 IO (io)
part Q pins: K1 INPUT/OE1 (in), K2 INPUT/GCLRn (in), K3 INPUT/OE2/GCLK2 (in), L1 INPUT/GCLK1 (in)
part R pins: A2 TDI/IO (io), B12 TMS/IO (io), C12 IO/VREFA (io), V10 IO/VREFB (io), V12 TCK/IO (io), Y2 TDO/IO (io)
part S pins: C4 VCCIO1 (1.8 V, 2.5 V, 3.3 V) (power), C17 VCCIO1 (1.8 V, 2.5 V, 3.3 V) (power), D3 VCCIO1 (1.8 V, 2.5 V, 3.3 V) (power), D5 VCCIO1 (1.8 V, 2.5 V, 3.3 V) (power), D16 VCCIO1 (1.8 V, 2.5 V, 3.3 V) (power), D18 VCCIO1 (1.8 V, 2.5 V, 3.3 V) (power), E4 VCCIO1 (1.8 V, 2.5 V, 3.3 V) (power), E17 VCCIO1 (1.8 V, 2.5 V, 3.3 V) (power), J1 VCCINT (2.5 V ONLY) (power), J19 VCCINT (2.5 V ONLY) (power), L4 VCCINT (2.5 V ONLY) (power), M19 VCCINT (2.5 V ONLY) (power), M20 VCCINT (2.5 V ONLY) (power), T4 VCCIO2 (1.8 V, 2.5 V, 3.3 V) (power), T17 VCCIO2 (1.8 V, 2.5 V, 3.3 V) (power), U3 VCCIO2 (1.8 V, 2.5 V, 3.3 V) (power), U5 VCCIO2 (1.8 V, 2.5 V, 3.3 V) (power), U16 VCCIO2 (1.8 V, 2.5 V, 3.3 V) (power), U18 VCCIO2 (1.8 V, 2.5 V, 3.3 V) (power), V2 VCCIO2 (1.8 V, 2.5 V, 3.3 V) (power), V4 VCCIO2 (1.8 V, 2.5 V, 3.3 V) (power), V17 VCCIO2 (1.8 V, 2.5 V, 3.3 V) (power)
part T pins: A1 GNDIO (power), B2 GNDIO (power), B19 GNDIO (power), B20 GNDIO (power), C3 GNDIO (power), C18 GNDIO (power), D4 GNDIO (power), D17 GNDIO (power), J20 GNDINT (power), K4 GNDINT (power), K18 GNDINT (power), L2 GNDINT (power), L17 GNDINT (power), U4 GNDIO (power), U17 GNDIO (power), V3 GNDIO (power), V18 GNDIO (power), V19 GNDIO (power), W2 GNDIO (power), W19 GNDIO (power), Y1 GNDIO (power), Y20 GNDIO (power)
part A text: BANK A; BANK B
part B text: BANK C; BANK D
part C text: BANK E; BANK F
part D text: BANK G; BANK H
part E text: BANK I; BANK J
part F text: BANK K; BANK L
part G text: BANK M; BANK N
part H text: BANK O; BANK P
part I text: BANK Q; BANK R
part J text: BANK S; BANK T
part K text: BANK U; BANK V
part L text: BANK W; BANK X
part M text: BANK Y; BANK Z
part N text: BANK AA; BANK BB
part O text: BANK CC; BANK DD
part P text: BANK EE; BANK FF

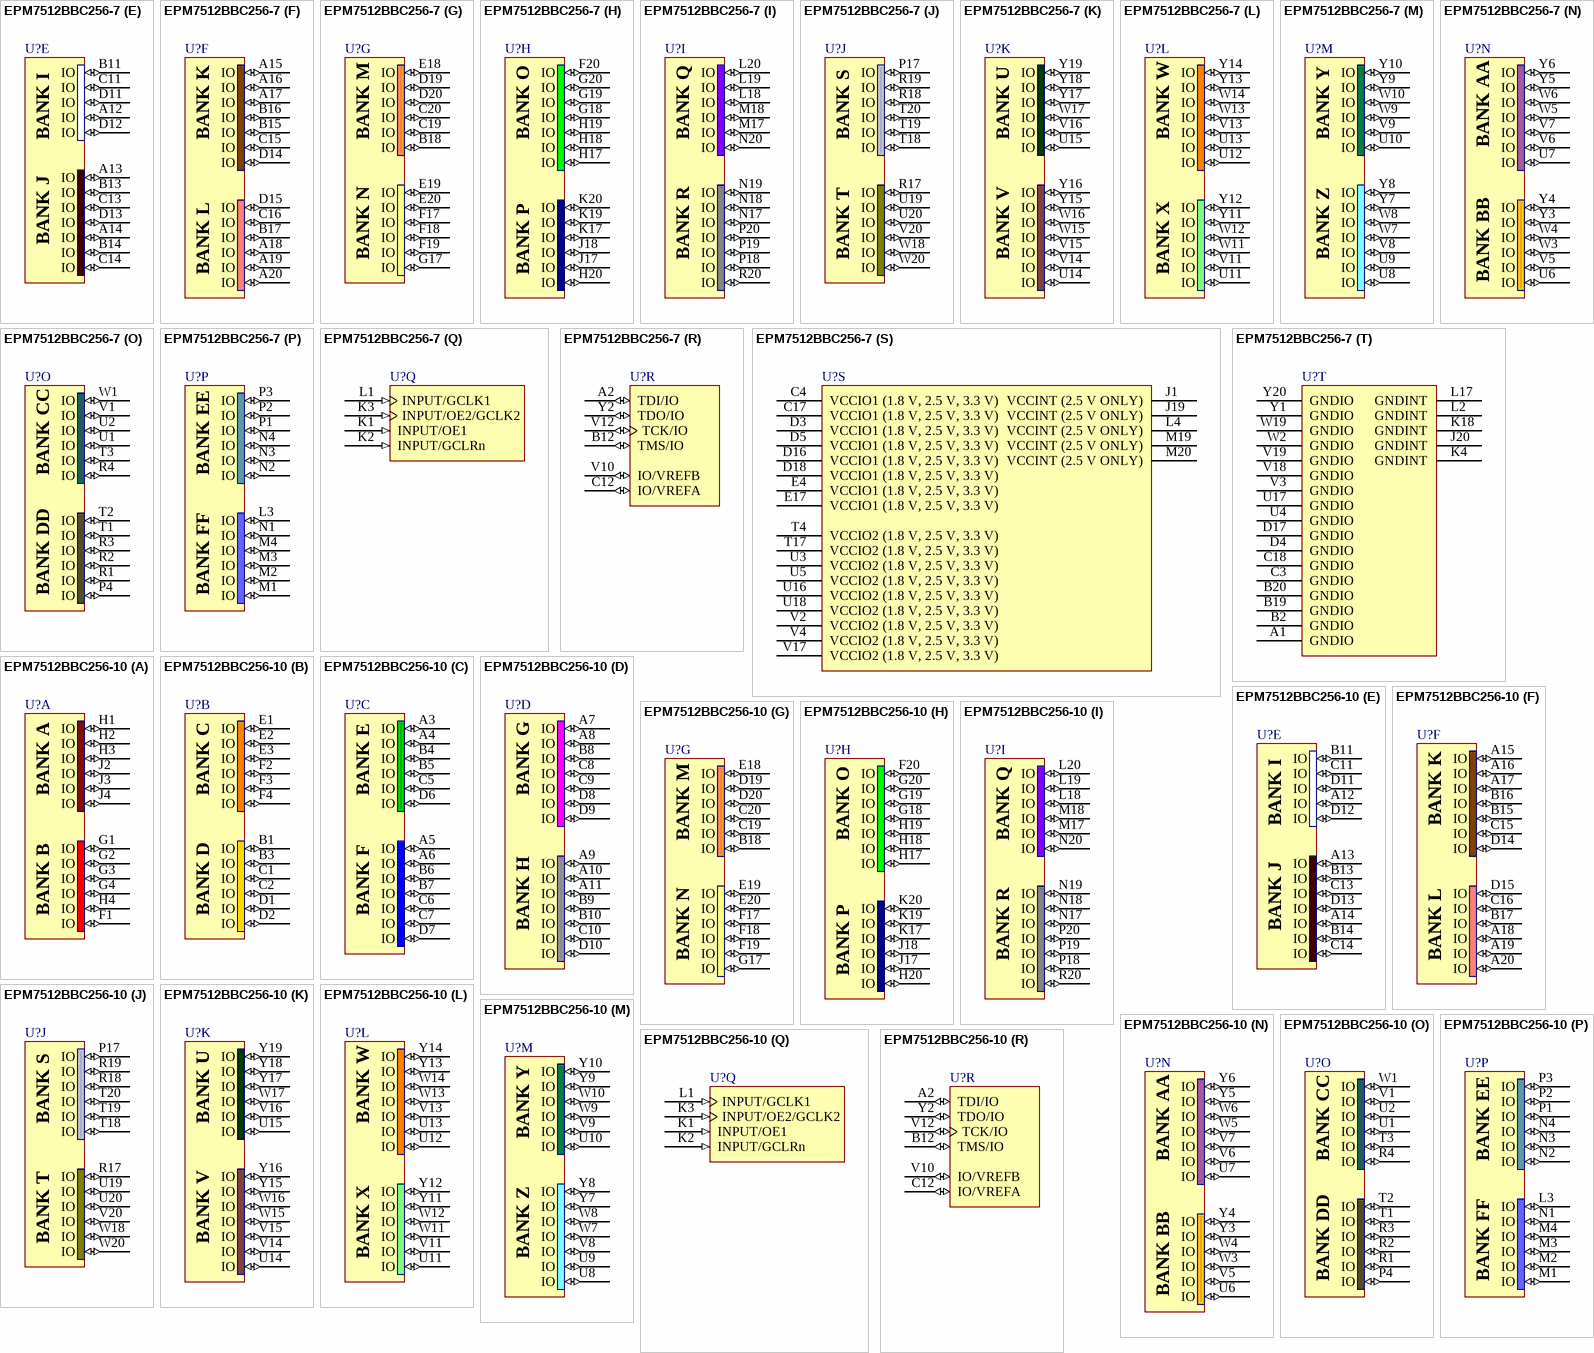
[diagram p37: symbols EPM7512BBC256-7 to EPM7512BBC256-10]

## EPM7512BBC256-7
designator U?
Max 7000B 2.5V CPLD, 512 Macrocells, 256-Pin BGA, Speed Grade 7, Commercial Grade; Published: 23-Sep-2002; LatestRevisionDate: 13-Apr-2006; LatestRevisionNote: IPC-7351 Footprint Added.; DatasheetVersion: ver3.5, Sep-2005; PackageVersion: ver14.3, Jul-2006; PackageReference: BGA256; Publisher: Altium Limited; PackageDescription: 256-Ball Plastic Ball Grid Array (BGA256) - Option 2; Code_JEDEC: MS-034-BAL-2; ComponentLink1Description: Manufacturer Link; ComponentLink1URL: http://www.altera.com/products/devices/max7k/m7k-index.html; ComponentLink2Description: Datasheet; ComponentLink2URL: http://www.altera.com/literature/ds/m7000b.pdf; ComponentLink3Description: Packaging Specification; ComponentLink3URL: http://www.altera.com/literature/ds/dspkg.pdf
footprint BGA256 (BGA, 256-Leads, Body 27x27mm, Pitch 1.27mm)
3D model EPM7512B-BGA256 (256-Ball Plastic Ball Grid Array (BGA256) - Option 2)
signal-integrity model 7kb (MAX 7000B)
part A pins: F1 IO (io), G1 IO (io), G2 IO (io), G3 IO (io), G4 IO (io), H1 IO (io), H2 IO (io), H3 IO (io), H4 IO (io), J2 IO (io), J3 IO (io), J4 IO (io)
part B pins: B1 IO (io), B3 IO (io), C1 IO (io), C2 IO (io), D1 IO (io), D2 IO (io), E1 IO (io), E2 IO (io), E3 IO (io), F2 IO (io), F3 IO (io), F4 IO (io)
part C pins: A3 IO (io), A4 IO (io), A5 IO (io), A6 IO (io), B4 IO (io), B5 IO (io), B6 IO (io), B7 IO (io), C5 IO (io), C6 IO (io), C7 IO (io), D6 IO (io), D7 IO (io)
part D pins: A7 IO (io), A8 IO (io), A9 IO (io), A10 IO (io), A11 IO (io), B8 IO (io), B9 IO (io), B10 IO (io), C8 IO (io), C9 IO (io), C10 IO (io), D8 IO (io), D9 IO (io), D10 IO (io)
part E pins: A12 IO (io), A13 IO (io), A14 IO (io), B11 IO (io), B13 IO (io), B14 IO (io), C11 IO (io), C13 IO (io), C14 IO (io), D11 IO (io), D12 IO (io), D13 IO (io)
part F pins: A15 IO (io), A16 IO (io), A17 IO (io), A18 IO (io), A19 IO (io), A20 IO (io), B15 IO (io), B16 IO (io), B17 IO (io), C15 IO (io), C16 IO (io), D14 IO (io), D15 IO (io)
part G pins: B18 IO (io), C19 IO (io), C20 IO (io), D19 IO (io), D20 IO (io), E18 IO (io), E19 IO (io), E20 IO (io), F17 IO (io), F18 IO (io), F19 IO (io), G17 IO (io)
part H pins: F20 IO (io), G18 IO (io), G19 IO (io), G20 IO (io), H17 IO (io), H18 IO (io), H19 IO (io), H20 IO (io), J17 IO (io), J18 IO (io), K17 IO (io), K19 IO (io), K20 IO (io)
part I pins: L18 IO (io), L19 IO (io), L20 IO (io), M17 IO (io), M18 IO (io), N17 IO (io), N18 IO (io), N19 IO (io), N20 IO (io), P18 IO (io), P19 IO (io), P20 IO (io), R20 IO (io)
part J pins: P17 IO (io), R17 IO (io), R18 IO (io), R19 IO (io), T18 IO (io), T19 IO (io), T20 IO (io), U19 IO (io), U20 IO (io), V20 IO (io), W18 IO (io), W20 IO (io)
part K pins: U14 IO (io), U15 IO (io), V14 IO (io), V15 IO (io), V16 IO (io), W15 IO (io), W16 IO (io), W17 IO (io), Y15 IO (io), Y16 IO (io), Y17 IO (io), Y18 IO (io), Y19 IO (io)
part L pins: U11 IO (io), U12 IO (io), U13 IO (io), V11 IO (io), V13 IO (io), W11 IO (io), W12 IO (io), W13 IO (io), W14 IO (io), Y11 IO (io), Y12 IO (io), Y13 IO (io), Y14 IO (io)
part M pins: U8 IO (io), U9 IO (io), U10 IO (io), V8 IO (io), V9 IO (io), W7 IO (io), W8 IO (io), W9 IO (io), W10 IO (io), Y7 IO (io), Y8 IO (io), Y9 IO (io), Y10 IO (io)
part N pins: U6 IO (io), U7 IO (io), V5 IO (io), V6 IO (io), V7 IO (io), W3 IO (io), W4 IO (io), W5 IO (io), W6 IO (io), Y3 IO (io), Y4 IO (io), Y5 IO (io), Y6 IO (io)
part O pins: P4 IO (io), R1 IO (io), R2 IO (io), R3 IO (io), R4 IO (io), T1 IO (io), T2 IO (io), T3 IO (io), U1 IO (io), U2 IO (io), V1 IO (io), W1 IO (io)
part P pins: L3 IO (io), M1 IO (io), M2 IO (io), M3 IO (io), M4 IO (io), N1 IO (io), N2 IO (io), N3 IO (io), N4 IO (io), P1 IO (io), P2 IO (io), P3 IO (io)
part Q pins: K1 INPUT/OE1 (in), K2 INPUT/GCLRn (in), K3 INPUT/OE2/GCLK2 (in), L1 INPUT/GCLK1 (in)
part R pins: A2 TDI/IO (io), B12 TMS/IO (io), C12 IO/VREFA (io), V10 IO/VREFB (io), V12 TCK/IO (io), Y2 TDO/IO (io)
part S pins: C4 VCCIO1 (1.8 V, 2.5 V, 3.3 V) (power), C17 VCCIO1 (1.8 V, 2.5 V, 3.3 V) (power), D3 VCCIO1 (1.8 V, 2.5 V, 3.3 V) (power), D5 VCCIO1 (1.8 V, 2.5 V, 3.3 V) (power), D16 VCCIO1 (1.8 V, 2.5 V, 3.3 V) (power), D18 VCCIO1 (1.8 V, 2.5 V, 3.3 V) (power), E4 VCCIO1 (1.8 V, 2.5 V, 3.3 V) (power), E17 VCCIO1 (1.8 V, 2.5 V, 3.3 V) (power), J1 VCCINT (2.5 V ONLY) (power), J19 VCCINT (2.5 V ONLY) (power), L4 VCCINT (2.5 V ONLY) (power), M19 VCCINT (2.5 V ONLY) (power), M20 VCCINT (2.5 V ONLY) (power), T4 VCCIO2 (1.8 V, 2.5 V, 3.3 V) (power), T17 VCCIO2 (1.8 V, 2.5 V, 3.3 V) (power), U3 VCCIO2 (1.8 V, 2.5 V, 3.3 V) (power), U5 VCCIO2 (1.8 V, 2.5 V, 3.3 V) (power), U16 VCCIO2 (1.8 V, 2.5 V, 3.3 V) (power), U18 VCCIO2 (1.8 V, 2.5 V, 3.3 V) (power), V2 VCCIO2 (1.8 V, 2.5 V, 3.3 V) (power), V4 VCCIO2 (1.8 V, 2.5 V, 3.3 V) (power), V17 VCCIO2 (1.8 V, 2.5 V, 3.3 V) (power)
part T pins: A1 GNDIO (power), B2 GNDIO (power), B19 GNDIO (power), B20 GNDIO (power), C3 GNDIO (power), C18 GNDIO (power), D4 GNDIO (power), D17 GNDIO (power), J20 GNDINT (power), K4 GNDINT (power), K18 GNDINT (power), L2 GNDINT (power), L17 GNDINT (power), U4 GNDIO (power), U17 GNDIO (power), V3 GNDIO (power), V18 GNDIO (power), V19 GNDIO (power), W2 GNDIO (power), W19 GNDIO (power), Y1 GNDIO (power), Y20 GNDIO (power)
part A text: BANK A; BANK B
part B text: BANK C; BANK D
part C text: BANK E; BANK F
part D text: BANK G; BANK H
part E text: BANK I; BANK J
part F text: BANK K; BANK L
part G text: BANK M; BANK N
part H text: BANK O; BANK P
part I text: BANK Q; BANK R
part J text: BANK S; BANK T
part K text: BANK U; BANK V
part L text: BANK W; BANK X
part M text: BANK Y; BANK Z
part N text: BANK AA; BANK BB
part O text: BANK CC; BANK DD
part P text: BANK EE; BANK FF

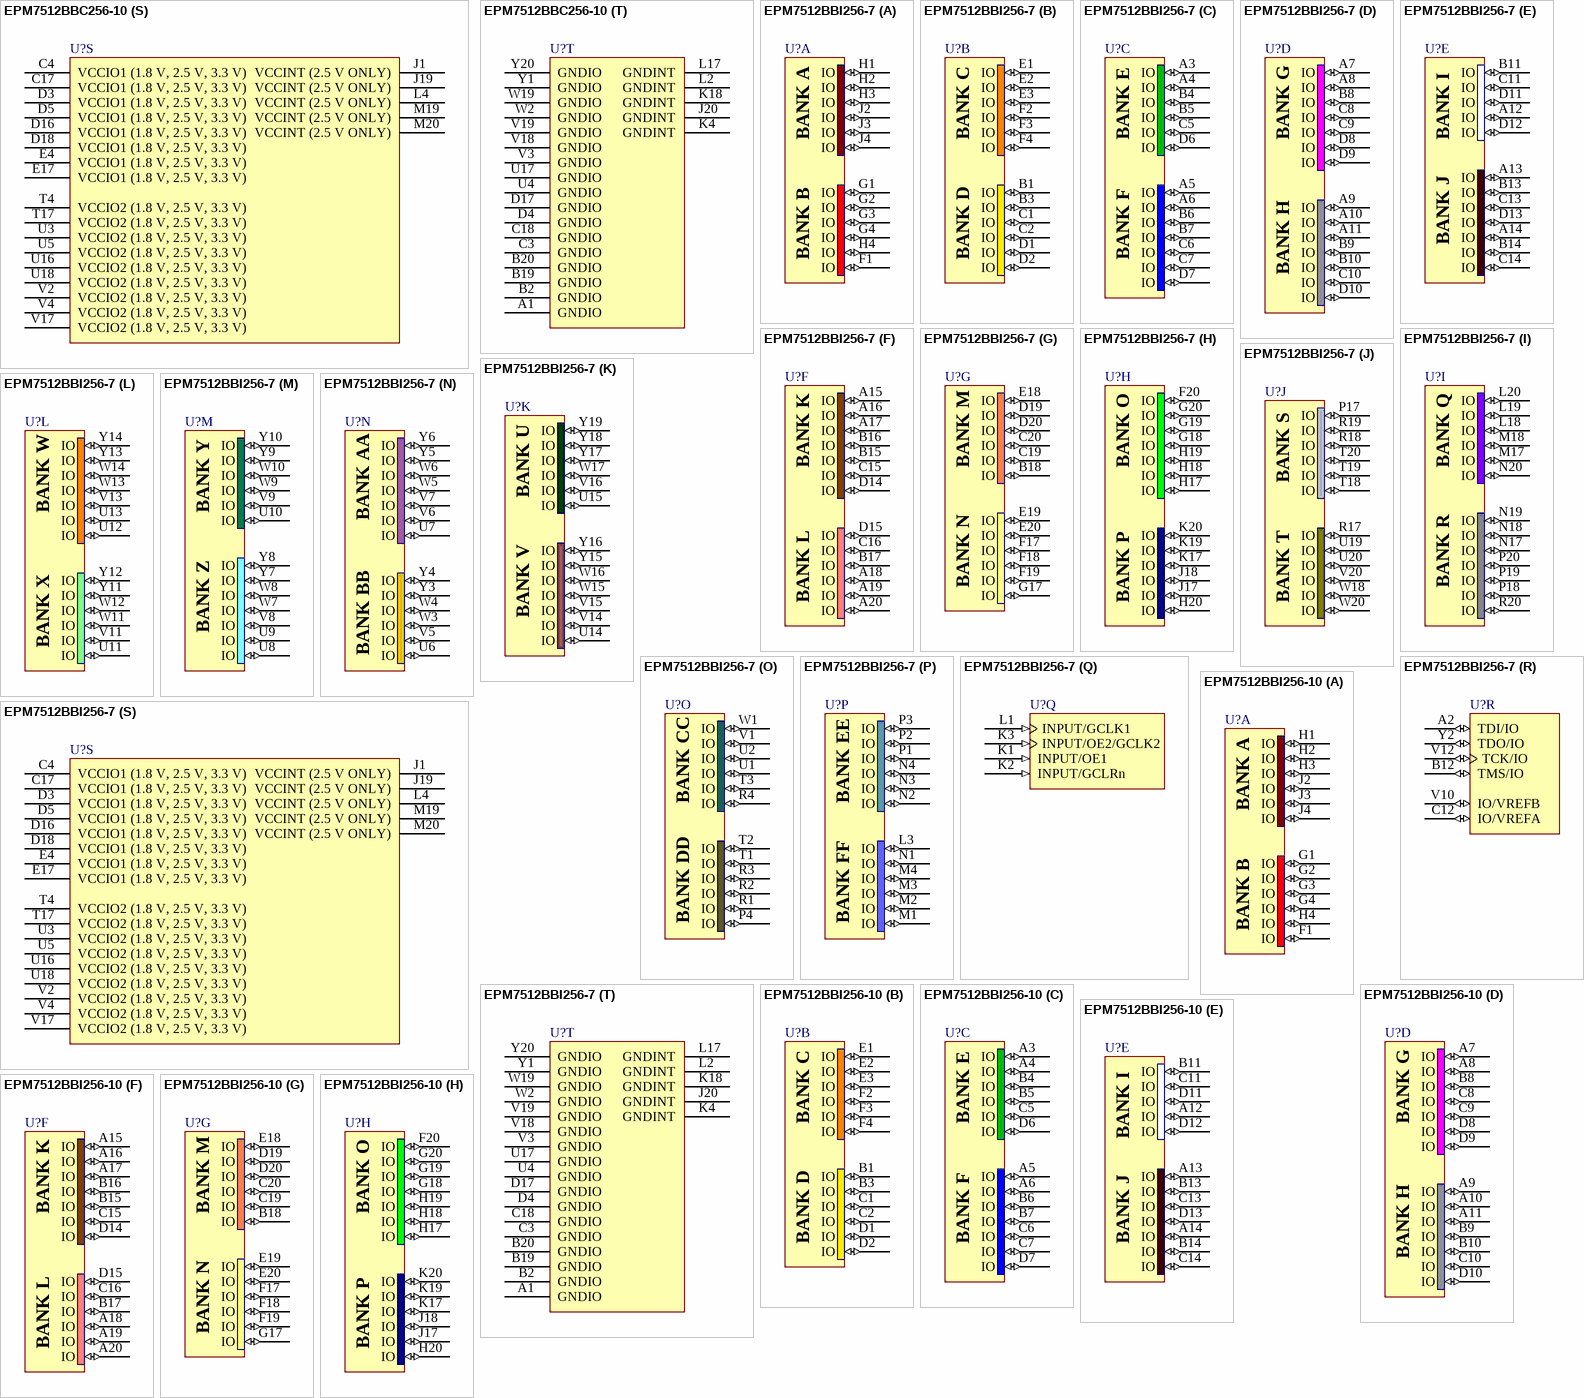
[diagram p38: symbols EPM7512BBC256-10 to EPM7512BBI256-10]

## EPM7512BBC256-10
designator U?
Max 7000B 2.5V CPLD, 512 Macrocells, 256-Pin BGA, Speed Grade 10, Commercial Grade; Published: 23-Sep-2002; LatestRevisionDate: 13-Apr-2006; LatestRevisionNote: IPC-7351 Footprint Added.; DatasheetVersion: ver3.5, Sep-2005; PackageVersion: ver14.3, Jul-2006; PackageReference: BGA256; Publisher: Altium Limited; PackageDescription: 256-Ball Plastic Ball Grid Array (BGA256) - Option 2; Supplier 1: Digi-Key; Supplier Part Number 1: EPM7512BBC256-10-ND; Code_JEDEC: MS-034-BAL-2; ComponentLink1Description: Manufacturer Link; ComponentLink1URL: http://www.altera.com/products/devices/max7k/m7k-index.html; ComponentLink2Description: Datasheet; ComponentLink2URL: http://www.altera.com/literature/ds/m7000b.pdf; ComponentLink3Description: Packaging Specification; ComponentLink3URL: http://www.altera.com/literature/ds/dspkg.pdf
footprint BGA256 (BGA, 256-Leads, Body 27x27mm, Pitch 1.27mm)
3D model EPM7512B-BGA256 (256-Ball Plastic Ball Grid Array (BGA256) - Option 2)
signal-integrity model 7kb (MAX 7000B)
part A pins: F1 IO (io), G1 IO (io), G2 IO (io), G3 IO (io), G4 IO (io), H1 IO (io), H2 IO (io), H3 IO (io), H4 IO (io), J2 IO (io), J3 IO (io), J4 IO (io)
part B pins: B1 IO (io), B3 IO (io), C1 IO (io), C2 IO (io), D1 IO (io), D2 IO (io), E1 IO (io), E2 IO (io), E3 IO (io), F2 IO (io), F3 IO (io), F4 IO (io)
part C pins: A3 IO (io), A4 IO (io), A5 IO (io), A6 IO (io), B4 IO (io), B5 IO (io), B6 IO (io), B7 IO (io), C5 IO (io), C6 IO (io), C7 IO (io), D6 IO (io), D7 IO (io)
part D pins: A7 IO (io), A8 IO (io), A9 IO (io), A10 IO (io), A11 IO (io), B8 IO (io), B9 IO (io), B10 IO (io), C8 IO (io), C9 IO (io), C10 IO (io), D8 IO (io), D9 IO (io), D10 IO (io)
part E pins: A12 IO (io), A13 IO (io), A14 IO (io), B11 IO (io), B13 IO (io), B14 IO (io), C11 IO (io), C13 IO (io), C14 IO (io), D11 IO (io), D12 IO (io), D13 IO (io)
part F pins: A15 IO (io), A16 IO (io), A17 IO (io), A18 IO (io), A19 IO (io), A20 IO (io), B15 IO (io), B16 IO (io), B17 IO (io), C15 IO (io), C16 IO (io), D14 IO (io), D15 IO (io)
part G pins: B18 IO (io), C19 IO (io), C20 IO (io), D19 IO (io), D20 IO (io), E18 IO (io), E19 IO (io), E20 IO (io), F17 IO (io), F18 IO (io), F19 IO (io), G17 IO (io)
part H pins: F20 IO (io), G18 IO (io), G19 IO (io), G20 IO (io), H17 IO (io), H18 IO (io), H19 IO (io), H20 IO (io), J17 IO (io), J18 IO (io), K17 IO (io), K19 IO (io), K20 IO (io)
part I pins: L18 IO (io), L19 IO (io), L20 IO (io), M17 IO (io), M18 IO (io), N17 IO (io), N18 IO (io), N19 IO (io), N20 IO (io), P18 IO (io), P19 IO (io), P20 IO (io), R20 IO (io)
part J pins: P17 IO (io), R17 IO (io), R18 IO (io), R19 IO (io), T18 IO (io), T19 IO (io), T20 IO (io), U19 IO (io), U20 IO (io), V20 IO (io), W18 IO (io), W20 IO (io)
part K pins: U14 IO (io), U15 IO (io), V14 IO (io), V15 IO (io), V16 IO (io), W15 IO (io), W16 IO (io), W17 IO (io), Y15 IO (io), Y16 IO (io), Y17 IO (io), Y18 IO (io), Y19 IO (io)
part L pins: U11 IO (io), U12 IO (io), U13 IO (io), V11 IO (io), V13 IO (io), W11 IO (io), W12 IO (io), W13 IO (io), W14 IO (io), Y11 IO (io), Y12 IO (io), Y13 IO (io), Y14 IO (io)
part M pins: U8 IO (io), U9 IO (io), U10 IO (io), V8 IO (io), V9 IO (io), W7 IO (io), W8 IO (io), W9 IO (io), W10 IO (io), Y7 IO (io), Y8 IO (io), Y9 IO (io), Y10 IO (io)
part N pins: U6 IO (io), U7 IO (io), V5 IO (io), V6 IO (io), V7 IO (io), W3 IO (io), W4 IO (io), W5 IO (io), W6 IO (io), Y3 IO (io), Y4 IO (io), Y5 IO (io), Y6 IO (io)
part O pins: P4 IO (io), R1 IO (io), R2 IO (io), R3 IO (io), R4 IO (io), T1 IO (io), T2 IO (io), T3 IO (io), U1 IO (io), U2 IO (io), V1 IO (io), W1 IO (io)
part P pins: L3 IO (io), M1 IO (io), M2 IO (io), M3 IO (io), M4 IO (io), N1 IO (io), N2 IO (io), N3 IO (io), N4 IO (io), P1 IO (io), P2 IO (io), P3 IO (io)
part Q pins: K1 INPUT/OE1 (in), K2 INPUT/GCLRn (in), K3 INPUT/OE2/GCLK2 (in), L1 INPUT/GCLK1 (in)
part R pins: A2 TDI/IO (io), B12 TMS/IO (io), C12 IO/VREFA (io), V10 IO/VREFB (io), V12 TCK/IO (io), Y2 TDO/IO (io)
part S pins: C4 VCCIO1 (1.8 V, 2.5 V, 3.3 V) (power), C17 VCCIO1 (1.8 V, 2.5 V, 3.3 V) (power), D3 VCCIO1 (1.8 V, 2.5 V, 3.3 V) (power), D5 VCCIO1 (1.8 V, 2.5 V, 3.3 V) (power), D16 VCCIO1 (1.8 V, 2.5 V, 3.3 V) (power), D18 VCCIO1 (1.8 V, 2.5 V, 3.3 V) (power), E4 VCCIO1 (1.8 V, 2.5 V, 3.3 V) (power), E17 VCCIO1 (1.8 V, 2.5 V, 3.3 V) (power), J1 VCCINT (2.5 V ONLY) (power), J19 VCCINT (2.5 V ONLY) (power), L4 VCCINT (2.5 V ONLY) (power), M19 VCCINT (2.5 V ONLY) (power), M20 VCCINT (2.5 V ONLY) (power), T4 VCCIO2 (1.8 V, 2.5 V, 3.3 V) (power), T17 VCCIO2 (1.8 V, 2.5 V, 3.3 V) (power), U3 VCCIO2 (1.8 V, 2.5 V, 3.3 V) (power), U5 VCCIO2 (1.8 V, 2.5 V, 3.3 V) (power), U16 VCCIO2 (1.8 V, 2.5 V, 3.3 V) (power), U18 VCCIO2 (1.8 V, 2.5 V, 3.3 V) (power), V2 VCCIO2 (1.8 V, 2.5 V, 3.3 V) (power), V4 VCCIO2 (1.8 V, 2.5 V, 3.3 V) (power), V17 VCCIO2 (1.8 V, 2.5 V, 3.3 V) (power)
part T pins: A1 GNDIO (power), B2 GNDIO (power), B19 GNDIO (power), B20 GNDIO (power), C3 GNDIO (power), C18 GNDIO (power), D4 GNDIO (power), D17 GNDIO (power), J20 GNDINT (power), K4 GNDINT (power), K18 GNDINT (power), L2 GNDINT (power), L17 GNDINT (power), U4 GNDIO (power), U17 GNDIO (power), V3 GNDIO (power), V18 GNDIO (power), V19 GNDIO (power), W2 GNDIO (power), W19 GNDIO (power), Y1 GNDIO (power), Y20 GNDIO (power)
part A text: BANK A; BANK B
part B text: BANK C; BANK D
part C text: BANK E; BANK F
part D text: BANK G; BANK H
part E text: BANK I; BANK J
part F text: BANK K; BANK L
part G text: BANK M; BANK N
part H text: BANK O; BANK P
part I text: BANK Q; BANK R
part J text: BANK S; BANK T
part K text: BANK U; BANK V
part L text: BANK W; BANK X
part M text: BANK Y; BANK Z
part N text: BANK AA; BANK BB
part O text: BANK CC; BANK DD
part P text: BANK EE; BANK FF

## EPM7512BBI256-7
designator U?
Max 7000B 2.5V CPLD, 512 Macrocells, 256-Pin BGA, Speed Grade 7, Industrial Grade; ComponentAvailability: Discontinued 2004, Compatible Substitute EPM7512BFI256-7; Published: 17-Sep-2003; LatestRevisionDate: 13-Apr-2006; LatestRevisionNote: IPC-7351 Footprint Added.; DatasheetVersion: ver3.4, Sep-2003; PackageVersion: ver14.3, Jul-2006; PackageReference: BGA256; Publisher: Altium Limited; PackageDescription: 256-Ball Plastic Ball Grid Array (BGA256) - Option 2; Code_JEDEC: MS-034-BAL-2; ComponentLink1Description: Manufacturer Link; ComponentLink1URL: http://www.altera.com/products/devices/max7k/m7k-index.html; ComponentLink2Description: Datasheet; ComponentLink2URL: http://www.altera.com/literature/ds/m7000b.pdf; ComponentLink3Description: Packaging Specification; ComponentLink3URL: http://www.altera.com/literature/ds/dspkg.pdf; ComponentLink4Description: Discontinuation Notice; ComponentLink4URL: http://www.altera.com/literature/pcn/pdn0203.pdf
footprint BGA256 (BGA, 256-Leads, Body 27x27mm, Pitch 1.27mm)
3D model EPM7512B-BGA256 (256-Ball Plastic Ball Grid Array (BGA256) - Option 2)
signal-integrity model 7kb (MAX 7000B)
part A pins: F1 IO (io), G1 IO (io), G2 IO (io), G3 IO (io), G4 IO (io), H1 IO (io), H2 IO (io), H3 IO (io), H4 IO (io), J2 IO (io), J3 IO (io), J4 IO (io)
part B pins: B1 IO (io), B3 IO (io), C1 IO (io), C2 IO (io), D1 IO (io), D2 IO (io), E1 IO (io), E2 IO (io), E3 IO (io), F2 IO (io), F3 IO (io), F4 IO (io)
part C pins: A3 IO (io), A4 IO (io), A5 IO (io), A6 IO (io), B4 IO (io), B5 IO (io), B6 IO (io), B7 IO (io), C5 IO (io), C6 IO (io), C7 IO (io), D6 IO (io), D7 IO (io)
part D pins: A7 IO (io), A8 IO (io), A9 IO (io), A10 IO (io), A11 IO (io), B8 IO (io), B9 IO (io), B10 IO (io), C8 IO (io), C9 IO (io), C10 IO (io), D8 IO (io), D9 IO (io), D10 IO (io)
part E pins: A12 IO (io), A13 IO (io), A14 IO (io), B11 IO (io), B13 IO (io), B14 IO (io), C11 IO (io), C13 IO (io), C14 IO (io), D11 IO (io), D12 IO (io), D13 IO (io)
part F pins: A15 IO (io), A16 IO (io), A17 IO (io), A18 IO (io), A19 IO (io), A20 IO (io), B15 IO (io), B16 IO (io), B17 IO (io), C15 IO (io), C16 IO (io), D14 IO (io), D15 IO (io)
part G pins: B18 IO (io), C19 IO (io), C20 IO (io), D19 IO (io), D20 IO (io), E18 IO (io), E19 IO (io), E20 IO (io), F17 IO (io), F18 IO (io), F19 IO (io), G17 IO (io)
part H pins: F20 IO (io), G18 IO (io), G19 IO (io), G20 IO (io), H17 IO (io), H18 IO (io), H19 IO (io), H20 IO (io), J17 IO (io), J18 IO (io), K17 IO (io), K19 IO (io), K20 IO (io)
part I pins: L18 IO (io), L19 IO (io), L20 IO (io), M17 IO (io), M18 IO (io), N17 IO (io), N18 IO (io), N19 IO (io), N20 IO (io), P18 IO (io), P19 IO (io), P20 IO (io), R20 IO (io)
part J pins: P17 IO (io), R17 IO (io), R18 IO (io), R19 IO (io), T18 IO (io), T19 IO (io), T20 IO (io), U19 IO (io), U20 IO (io), V20 IO (io), W18 IO (io), W20 IO (io)
part K pins: U14 IO (io), U15 IO (io), V14 IO (io), V15 IO (io), V16 IO (io), W15 IO (io), W16 IO (io), W17 IO (io), Y15 IO (io), Y16 IO (io), Y17 IO (io), Y18 IO (io), Y19 IO (io)
part L pins: U11 IO (io), U12 IO (io), U13 IO (io), V11 IO (io), V13 IO (io), W11 IO (io), W12 IO (io), W13 IO (io), W14 IO (io), Y11 IO (io), Y12 IO (io), Y13 IO (io), Y14 IO (io)
part M pins: U8 IO (io), U9 IO (io), U10 IO (io), V8 IO (io), V9 IO (io), W7 IO (io), W8 IO (io), W9 IO (io), W10 IO (io), Y7 IO (io), Y8 IO (io), Y9 IO (io), Y10 IO (io)
part N pins: U6 IO (io), U7 IO (io), V5 IO (io), V6 IO (io), V7 IO (io), W3 IO (io), W4 IO (io), W5 IO (io), W6 IO (io), Y3 IO (io), Y4 IO (io), Y5 IO (io), Y6 IO (io)
part O pins: P4 IO (io), R1 IO (io), R2 IO (io), R3 IO (io), R4 IO (io), T1 IO (io), T2 IO (io), T3 IO (io), U1 IO (io), U2 IO (io), V1 IO (io), W1 IO (io)
part P pins: L3 IO (io), M1 IO (io), M2 IO (io), M3 IO (io), M4 IO (io), N1 IO (io), N2 IO (io), N3 IO (io), N4 IO (io), P1 IO (io), P2 IO (io), P3 IO (io)
part Q pins: K1 INPUT/OE1 (in), K2 INPUT/GCLRn (in), K3 INPUT/OE2/GCLK2 (in), L1 INPUT/GCLK1 (in)
part R pins: A2 TDI/IO (io), B12 TMS/IO (io), C12 IO/VREFA (io), V10 IO/VREFB (io), V12 TCK/IO (io), Y2 TDO/IO (io)
part S pins: C4 VCCIO1 (1.8 V, 2.5 V, 3.3 V) (power), C17 VCCIO1 (1.8 V, 2.5 V, 3.3 V) (power), D3 VCCIO1 (1.8 V, 2.5 V, 3.3 V) (power), D5 VCCIO1 (1.8 V, 2.5 V, 3.3 V) (power), D16 VCCIO1 (1.8 V, 2.5 V, 3.3 V) (power), D18 VCCIO1 (1.8 V, 2.5 V, 3.3 V) (power), E4 VCCIO1 (1.8 V, 2.5 V, 3.3 V) (power), E17 VCCIO1 (1.8 V, 2.5 V, 3.3 V) (power), J1 VCCINT (2.5 V ONLY) (power), J19 VCCINT (2.5 V ONLY) (power), L4 VCCINT (2.5 V ONLY) (power), M19 VCCINT (2.5 V ONLY) (power), M20 VCCINT (2.5 V ONLY) (power), T4 VCCIO2 (1.8 V, 2.5 V, 3.3 V) (power), T17 VCCIO2 (1.8 V, 2.5 V, 3.3 V) (power), U3 VCCIO2 (1.8 V, 2.5 V, 3.3 V) (power), U5 VCCIO2 (1.8 V, 2.5 V, 3.3 V) (power), U16 VCCIO2 (1.8 V, 2.5 V, 3.3 V) (power), U18 VCCIO2 (1.8 V, 2.5 V, 3.3 V) (power), V2 VCCIO2 (1.8 V, 2.5 V, 3.3 V) (power), V4 VCCIO2 (1.8 V, 2.5 V, 3.3 V) (power), V17 VCCIO2 (1.8 V, 2.5 V, 3.3 V) (power)
part T pins: A1 GNDIO (power), B2 GNDIO (power), B19 GNDIO (power), B20 GNDIO (power), C3 GNDIO (power), C18 GNDIO (power), D4 GNDIO (power), D17 GNDIO (power), J20 GNDINT (power), K4 GNDINT (power), K18 GNDINT (power), L2 GNDINT (power), L17 GNDINT (power), U4 GNDIO (power), U17 GNDIO (power), V3 GNDIO (power), V18 GNDIO (power), V19 GNDIO (power), W2 GNDIO (power), W19 GNDIO (power), Y1 GNDIO (power), Y20 GNDIO (power)
part A text: BANK A; BANK B
part B text: BANK C; BANK D
part C text: BANK E; BANK F
part D text: BANK G; BANK H
part E text: BANK I; BANK J
part F text: BANK K; BANK L
part G text: BANK M; BANK N
part H text: BANK O; BANK P
part I text: BANK Q; BANK R
part J text: BANK S; BANK T
part K text: BANK U; BANK V
part L text: BANK W; BANK X
part M text: BANK Y; BANK Z
part N text: BANK AA; BANK BB
part O text: BANK CC; BANK DD
part P text: BANK EE; BANK FF

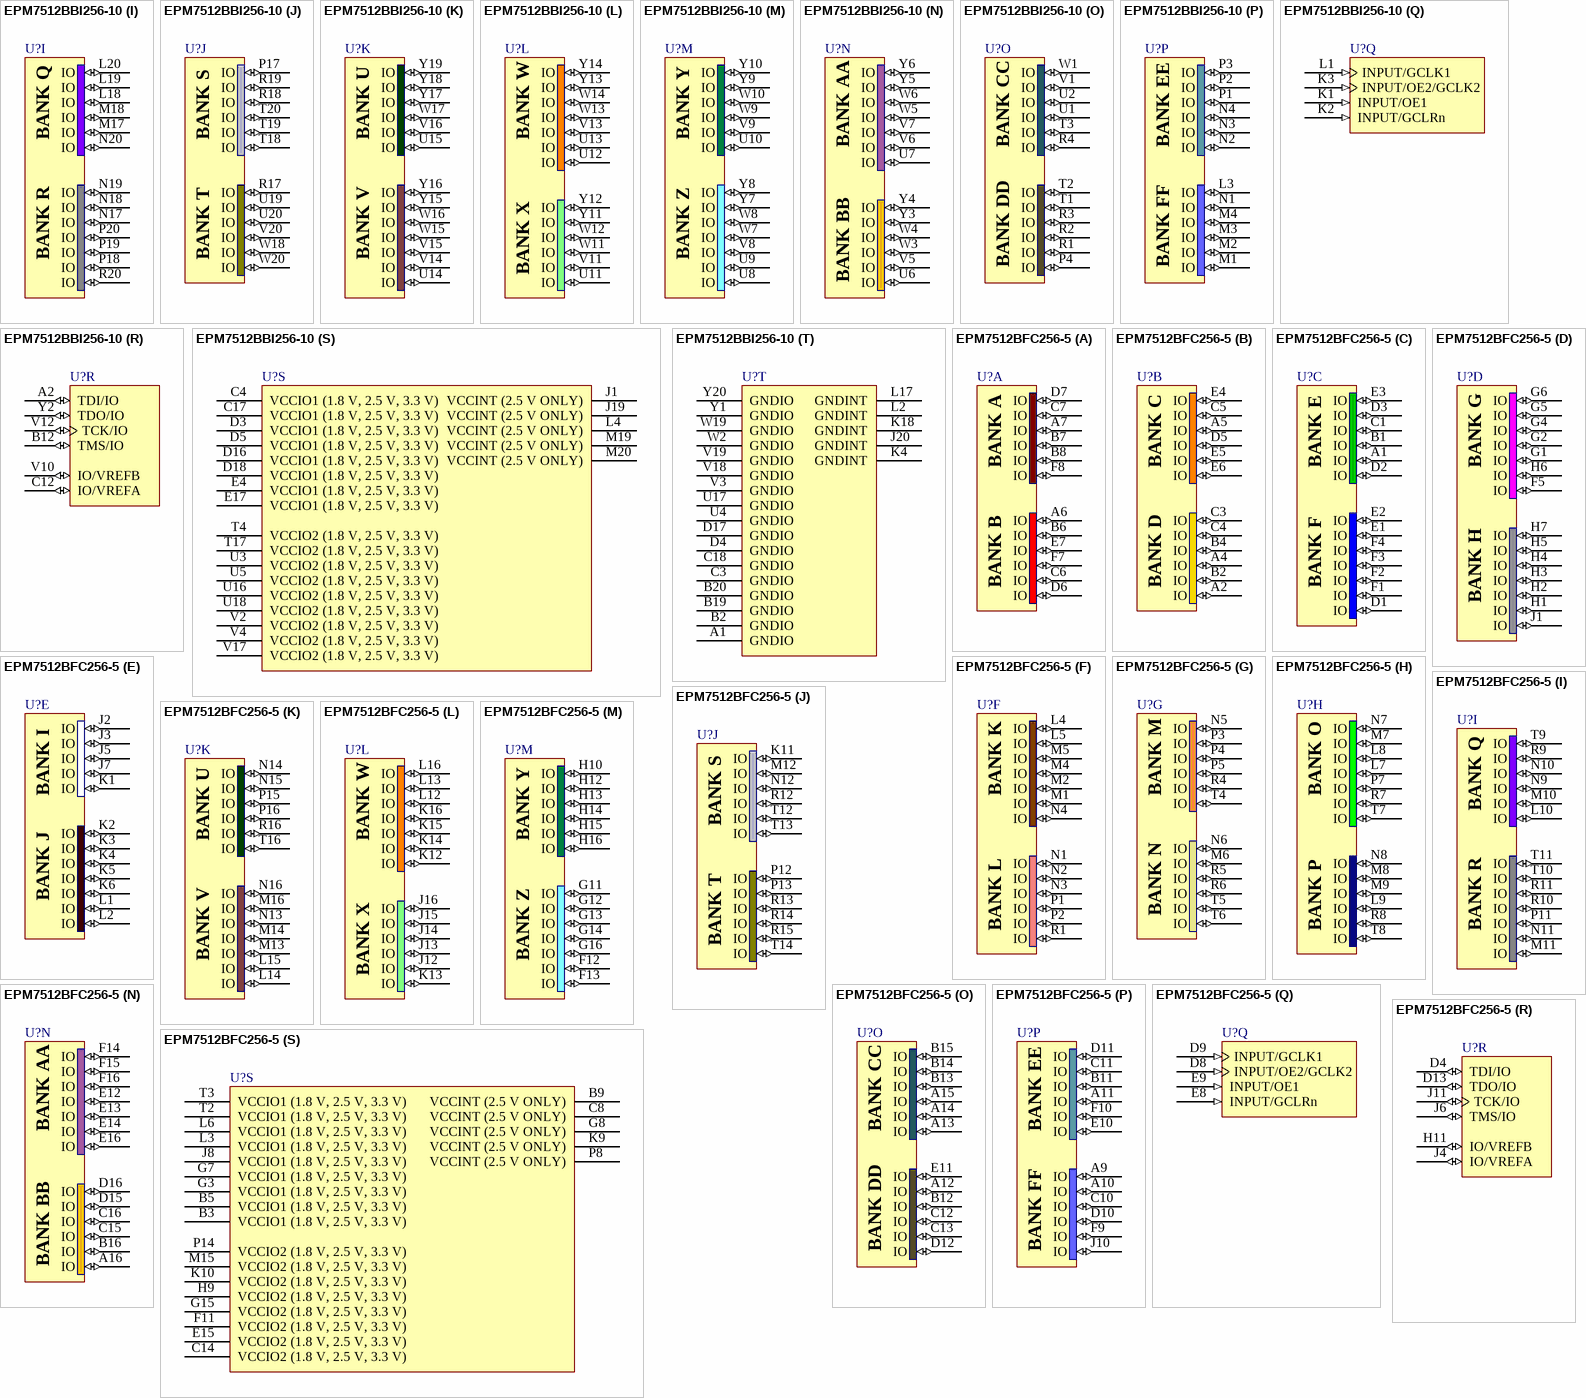
[diagram p39: symbols EPM7512BBI256-10 to EPM7512BFC256-5]